# Altium integrated library Altera MAX 7000B.IntLib: 128 symbols (part 5 of 9)
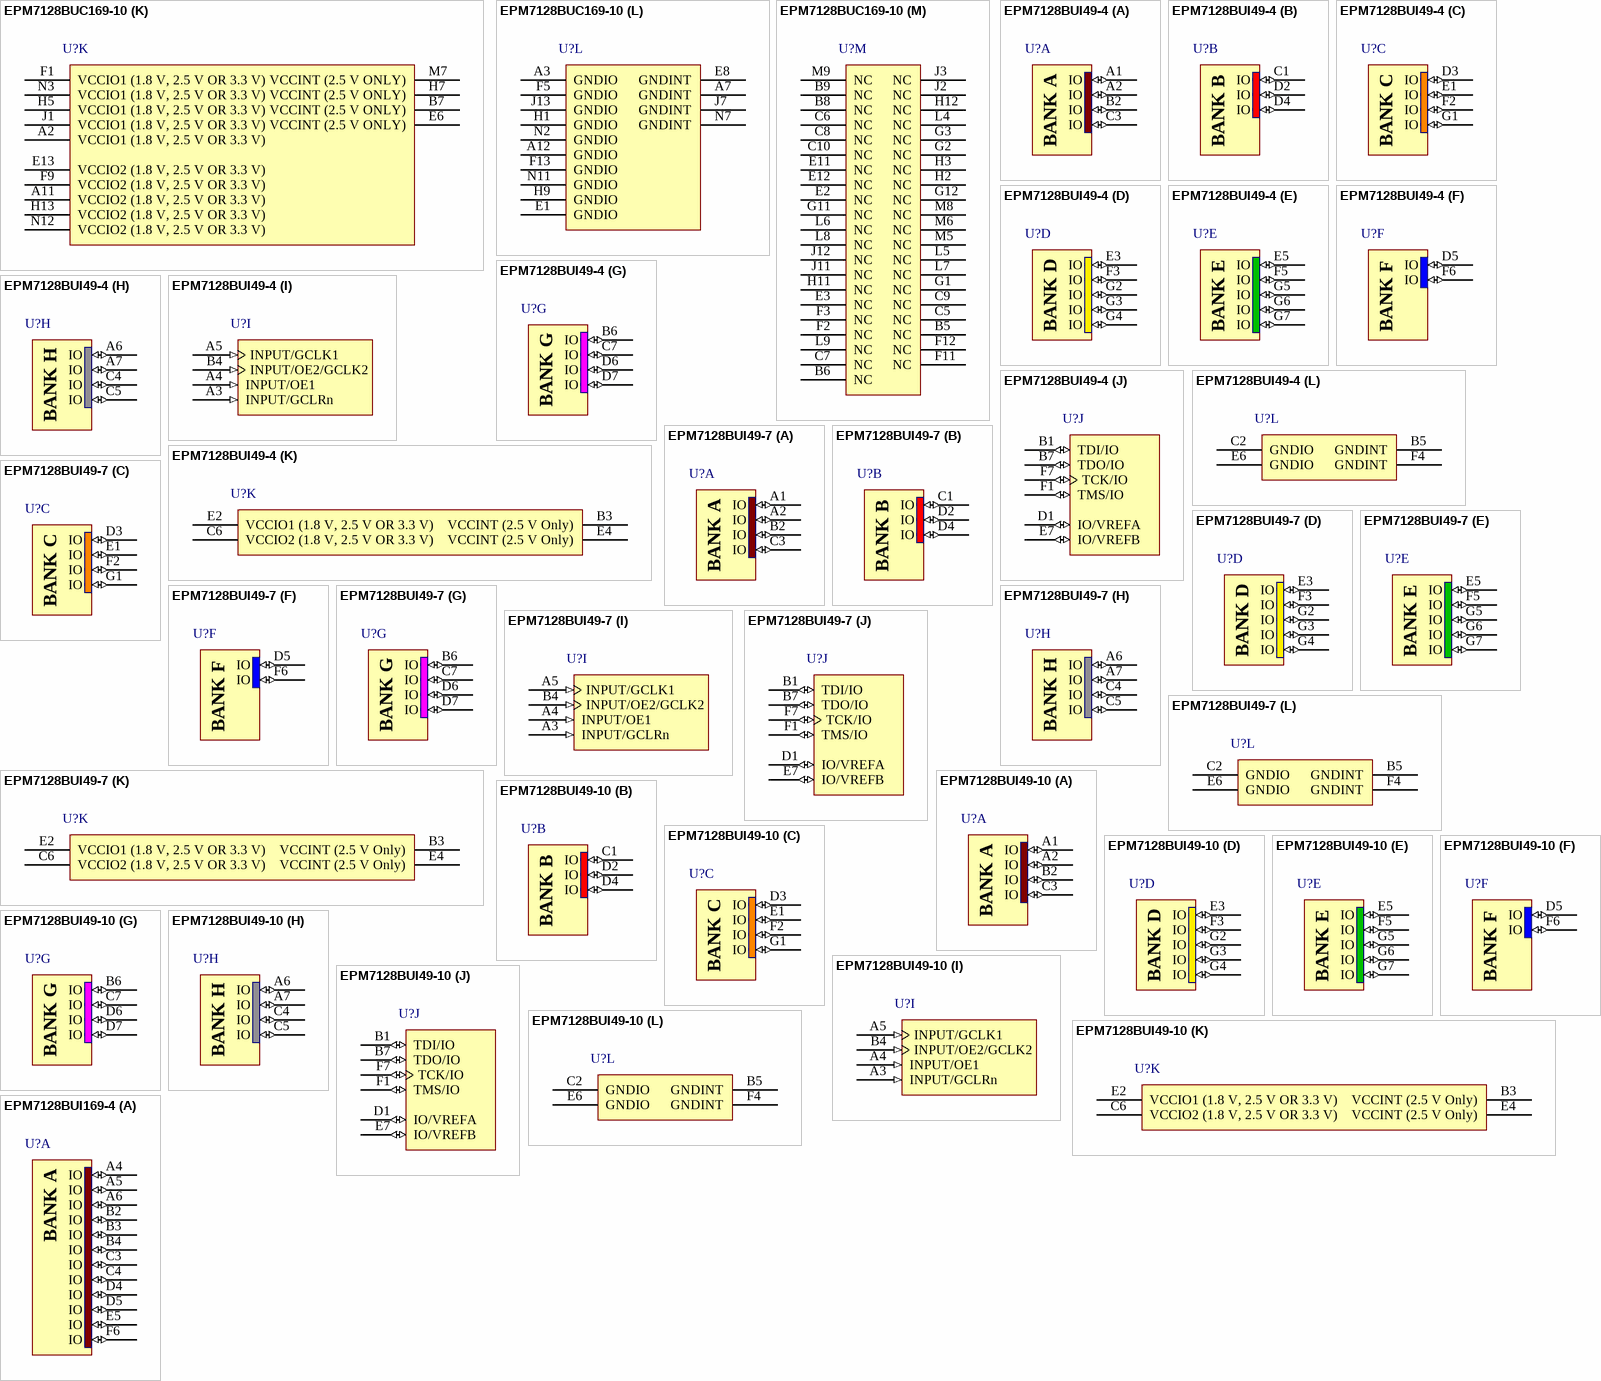
[diagram p50: symbols EPM7128BUC169-10 to EPM7128BUI169-4]

## EPM7128BUC169-10
designator U?
Max 7000B 2.5V CPLD, 128 Macrocells, 169-Pin UFBGA, Speed Grade 10, Commercial Grade; ComponentAvailability: Discontinued 2004, Compatible Substitute EPM7256BUC169-10; Published: 17-Sep-2003; LatestRevisionDate: 13-Apr-2006; LatestRevisionNote: IPC-7351 Footprint Added.; DatasheetVersion: ver3.5, Sep-2005; PackageVersion: ver14.3, Jul-2006; PackageReference: UBGA169; Publisher: Altium Limited; PackageDescription: 169-Ball Ultra FineLine Ball Grid Array (UBGA169); Code_JEDEC: MO-216-BAF-1; ComponentLink1Description: Manufacturer Link; ComponentLink1URL: http://www.altera.com/products/devices/max7k/m7k-index.html; ComponentLink2Description: Datasheet; ComponentLink2URL: http://www.altera.com/literature/ds/m7000b.pdf; ComponentLink3Description: Packaging Specification; ComponentLink3URL: http://www.altera.com/literature/ds/dspkg.pdf; ComponentLink4Description: Discontinuation Notice; ComponentLink4URL: http://www.altera.com/literature/pcn/pdn0203.pdf
footprint UBGA169 (BGA, 169-Leads, Body 11x11mm, Pitch 0.8mm)
3D model EPM7128B-UBGA169 (169-Ball Ultra FineLine Ball Grid Array (UBGA169))
signal-integrity model 7kb (MAX 7000B)
part A pins: A4 IO (io), A5 IO (io), A6 IO (io), B2 IO (io), B3 IO (io), B4 IO (io), C3 IO (io), C4 IO (io), D4 IO (io), D5 IO (io), E5 IO (io), F6 IO (io)
part B pins: A1 IO (io), B1 IO (io), C1 IO (io), C2 IO (io), D1 IO (io), D2 IO (io), D3 IO (io), F4 IO (io), G5 IO (io), G7 IO (io)
part C pins: G6 IO (io), H4 IO (io), J5 IO (io), K1 IO (io), K2 IO (io), K3 IO (io), K4 IO (io), L1 IO (io), L2 IO (io), M1 IO (io), N1 IO (io)
part D pins: H6 IO (io), J6 IO (io), K5 IO (io), K6 IO (io), K7 IO (io), L3 IO (io), M2 IO (io), M3 IO (io), M4 IO (io), N4 IO (io), N5 IO (io), N6 IO (io)
part E pins: H8 IO (io), J8 IO (io), K8 IO (io), K9 IO (io), K10 IO (io), L10 IO (io), L11 IO (io), M10 IO (io), M11 IO (io), N8 IO (io), N9 IO (io), N10 IO (io)
part F pins: G8 IO (io), J9 IO (io), K11 IO (io), K12 IO (io), K13 IO (io), L12 IO (io), L13 IO (io), M12 IO (io), M13 IO (io), N13 IO (io)
part G pins: B13 IO (io), C12 IO (io), C13 IO (io), D11 IO (io), D12 IO (io), D13 IO (io), E9 IO (io), F10 IO (io), G9 IO (io), G10 IO (io), G13 IO (io)
part H pins: A8 IO (io), A9 IO (io), A10 IO (io), A13 IO (io), B10 IO (io), B11 IO (io), B12 IO (io), C11 IO (io), D9 IO (io), D10 IO (io), F7 IO (io), F8 IO (io)
part I pins: D6 INPUT/GCLRn (in), D7 INPUT/OE1 (in), D8 INPUT/GCLK1 (in), E7 INPUT/OE2/GCLK2 (in)
part J pins: E4 TDI/IO (io), E10 TDO/IO (io), G4 IO/VREFA (io), H10 IO/VREFB (io), J4 TMS/IO (io), J10 TCK/IO (io)
part K pins: A2 VCCIO1 (1.8 V, 2.5 V OR 3.3 V) (power), A11 VCCIO2 (1.8 V, 2.5 V OR 3.3 V) (power), B7 VCCINT (2.5 V ONLY) (power), E6 VCCINT (2.5 V ONLY) (power), E13 VCCIO2 (1.8 V, 2.5 V OR 3.3 V) (power), F1 VCCIO1 (1.8 V, 2.5 V OR 3.3 V) (power), F9 VCCIO2 (1.8 V, 2.5 V OR 3.3 V) (power), H5 VCCIO1 (1.8 V, 2.5 V OR 3.3 V) (power), H7 VCCINT (2.5 V ONLY) (power), H13 VCCIO2 (1.8 V, 2.5 V OR 3.3 V) (power), J1 VCCIO1 (1.8 V, 2.5 V OR 3.3 V) (power), M7 VCCINT (2.5 V ONLY) (power), N3 VCCIO1 (1.8 V, 2.5 V OR 3.3 V) (power), N12 VCCIO2 (1.8 V, 2.5 V OR 3.3 V) (power)
part L pins: A3 GNDIO (power), A7 GNDINT (power), A12 GNDIO (power), E1 GNDIO (power), E8 GNDINT (power), F5 GNDIO (power), F13 GNDIO (power), H1 GNDIO (power), H9 GNDIO (power), J7 GNDINT (power), J13 GNDIO (power), N2 GNDIO (power), N7 GNDINT (power), N11 GNDIO (power)
part M pins: B5 NC, B6 NC, B8 NC, B9 NC, C5 NC, C6 NC, C7 NC, C8 NC, C9 NC, C10 NC, E2 NC, E3 NC, E11 NC, E12 NC, F2 NC, F3 NC, F11 NC, F12 NC, G1 NC, G2 NC, G3 NC, G11 NC, G12 NC, H2 NC, H3 NC, H11 NC, H12 NC, J2 NC, J3 NC, J11 NC, J12 NC, L4 NC, L5 NC, L6 NC, L7 NC, L8 NC, L9 NC, M5 NC, M6 NC, M8 NC, M9 NC
part A text: BANK A
part B text: BANK B
part C text: BANK C
part D text: BANK D
part E text: BANK E
part F text: BANK F
part G text: BANK G
part H text: BANK H

## EPM7128BUI49-4
designator U?
Max 7000B 2.5V CPLD, 128 Macrocells, 49-Pin UFBGA, Speed Grade 4, Industrial Grade; ComponentAvailability: Discontinued 2004; Published: 17-Sep-2003; LatestRevisionDate: 13-Apr-2006; LatestRevisionNote: IPC-7351 Footprint Added.; DatasheetVersion: ver3.4, Sep-2003; PackageVersion: ver14.3, Jul-2006; PackageReference: UBGA49; Publisher: Altium Limited; PackageDescription: 49-Ball Ultra FineLine Ball Grid Array (UBGA49); Code_JEDEC: MO-216-BAB-2; ComponentLink1Description: Manufacturer Link; ComponentLink1URL: http://www.altera.com/products/devices/max7k/m7k-index.html; ComponentLink2Description: Datasheet; ComponentLink2URL: http://www.altera.com/literature/ds/m7000b.pdf; ComponentLink3Description: Packaging Specification; ComponentLink3URL: http://www.altera.com/literature/ds/dspkg.pdf
footprint UBGA49 (BGA, 49-Leads, Body 7x7mm, Pitch 0.8mm)
3D model EPM7128B-UBGA49 (49-Ball Ultra FineLine Ball Grid Array (UBGA49))
signal-integrity model 7kb (MAX 7000B)
part A pins: A1 IO (io), A2 IO (io), B2 IO (io), C3 IO (io)
part B pins: C1 IO (io), D2 IO (io), D4 IO (io)
part C pins: D3 IO (io), E1 IO (io), F2 IO (io), G1 IO (io)
part D pins: E3 IO (io), F3 IO (io), G2 IO (io), G3 IO (io), G4 IO (io)
part E pins: E5 IO (io), F5 IO (io), G5 IO (io), G6 IO (io), G7 IO (io)
part F pins: D5 IO (io), F6 IO (io)
part G pins: B6 IO (io), C7 IO (io), D6 IO (io), D7 IO (io)
part H pins: A6 IO (io), A7 IO (io), C4 IO (io), C5 IO (io)
part I pins: A3 INPUT/GCLRn (in), A4 INPUT/OE1 (in), A5 INPUT/GCLK1 (in), B4 INPUT/OE2/GCLK2 (in)
part J pins: B1 TDI/IO (io), B7 TDO/IO (io), D1 IO/VREFA (io), E7 IO/VREFB (io), F1 TMS/IO (io), F7 TCK/IO (io)
part K pins: B3 VCCINT (2.5 V Only) (power), C6 VCCIO2 (1.8 V, 2.5 V OR 3.3 V) (power), E2 VCCIO1 (1.8 V, 2.5 V OR 3.3 V) (power), E4 VCCINT (2.5 V Only) (power)
part L pins: B5 GNDINT (power), C2 GNDIO (power), E6 GNDIO (power), F4 GNDINT (power)
part A text: BANK A
part B text: BANK B
part C text: BANK C
part D text: BANK D
part E text: BANK E
part F text: BANK F
part G text: BANK G
part H text: BANK H

## EPM7128BUI49-7
designator U?
Max 7000B 2.5V CPLD, 128 Macrocells, 49-Pin UFBGA, Speed Grade 7, Industrial Grade; ComponentAvailability: Discontinued 2004; Published: 17-Sep-2003; LatestRevisionDate: 13-Apr-2006; LatestRevisionNote: IPC-7351 Footprint Added.; DatasheetVersion: ver3.4, Sep-2003; PackageVersion: ver14.3, Jul-2006; PackageReference: UBGA49; Publisher: Altium Limited; PackageDescription: 49-Ball Ultra FineLine Ball Grid Array (UBGA49); Code_JEDEC: MO-216-BAB-2; ComponentLink1Description: Manufacturer Link; ComponentLink1URL: http://www.altera.com/products/devices/max7k/m7k-index.html; ComponentLink2Description: Datasheet; ComponentLink2URL: http://www.altera.com/literature/ds/m7000b.pdf; ComponentLink3Description: Packaging Specification; ComponentLink3URL: http://www.altera.com/literature/ds/dspkg.pdf
footprint UBGA49 (BGA, 49-Leads, Body 7x7mm, Pitch 0.8mm)
3D model EPM7128B-UBGA49 (49-Ball Ultra FineLine Ball Grid Array (UBGA49))
signal-integrity model 7kb (MAX 7000B)
part A pins: A1 IO (io), A2 IO (io), B2 IO (io), C3 IO (io)
part B pins: C1 IO (io), D2 IO (io), D4 IO (io)
part C pins: D3 IO (io), E1 IO (io), F2 IO (io), G1 IO (io)
part D pins: E3 IO (io), F3 IO (io), G2 IO (io), G3 IO (io), G4 IO (io)
part E pins: E5 IO (io), F5 IO (io), G5 IO (io), G6 IO (io), G7 IO (io)
part F pins: D5 IO (io), F6 IO (io)
part G pins: B6 IO (io), C7 IO (io), D6 IO (io), D7 IO (io)
part H pins: A6 IO (io), A7 IO (io), C4 IO (io), C5 IO (io)
part I pins: A3 INPUT/GCLRn (in), A4 INPUT/OE1 (in), A5 INPUT/GCLK1 (in), B4 INPUT/OE2/GCLK2 (in)
part J pins: B1 TDI/IO (io), B7 TDO/IO (io), D1 IO/VREFA (io), E7 IO/VREFB (io), F1 TMS/IO (io), F7 TCK/IO (io)
part K pins: B3 VCCINT (2.5 V Only) (power), C6 VCCIO2 (1.8 V, 2.5 V OR 3.3 V) (power), E2 VCCIO1 (1.8 V, 2.5 V OR 3.3 V) (power), E4 VCCINT (2.5 V Only) (power)
part L pins: B5 GNDINT (power), C2 GNDIO (power), E6 GNDIO (power), F4 GNDINT (power)
part A text: BANK A
part B text: BANK B
part C text: BANK C
part D text: BANK D
part E text: BANK E
part F text: BANK F
part G text: BANK G
part H text: BANK H

## EPM7128BUI49-10
designator U?
Max 7000B 2.5V CPLD, 128 Macrocells, 49-Pin UFBGA, Speed Grade 10, Industrial Grade; ComponentAvailability: Discontinued 2004; Published: 17-Sep-2003; LatestRevisionDate: 13-Apr-2006; LatestRevisionNote: IPC-7351 Footprint Added.; DatasheetVersion: ver3.4, Sep-2003; PackageVersion: ver14.3, Jul-2006; PackageReference: UBGA49; Publisher: Altium Limited; PackageDescription: 49-Ball Ultra FineLine Ball Grid Array (UBGA49); Code_JEDEC: MO-216-BAB-2; ComponentLink1Description: Manufacturer Link; ComponentLink1URL: http://www.altera.com/products/devices/max7k/m7k-index.html; ComponentLink2Description: Datasheet; ComponentLink2URL: http://www.altera.com/literature/ds/m7000b.pdf; ComponentLink3Description: Packaging Specification; ComponentLink3URL: http://www.altera.com/literature/ds/dspkg.pdf
footprint UBGA49 (BGA, 49-Leads, Body 7x7mm, Pitch 0.8mm)
3D model EPM7128B-UBGA49 (49-Ball Ultra FineLine Ball Grid Array (UBGA49))
signal-integrity model 7kb (MAX 7000B)
part A pins: A1 IO (io), A2 IO (io), B2 IO (io), C3 IO (io)
part B pins: C1 IO (io), D2 IO (io), D4 IO (io)
part C pins: D3 IO (io), E1 IO (io), F2 IO (io), G1 IO (io)
part D pins: E3 IO (io), F3 IO (io), G2 IO (io), G3 IO (io), G4 IO (io)
part E pins: E5 IO (io), F5 IO (io), G5 IO (io), G6 IO (io), G7 IO (io)
part F pins: D5 IO (io), F6 IO (io)
part G pins: B6 IO (io), C7 IO (io), D6 IO (io), D7 IO (io)
part H pins: A6 IO (io), A7 IO (io), C4 IO (io), C5 IO (io)
part I pins: A3 INPUT/GCLRn (in), A4 INPUT/OE1 (in), A5 INPUT/GCLK1 (in), B4 INPUT/OE2/GCLK2 (in)
part J pins: B1 TDI/IO (io), B7 TDO/IO (io), D1 IO/VREFA (io), E7 IO/VREFB (io), F1 TMS/IO (io), F7 TCK/IO (io)
part K pins: B3 VCCINT (2.5 V Only) (power), C6 VCCIO2 (1.8 V, 2.5 V OR 3.3 V) (power), E2 VCCIO1 (1.8 V, 2.5 V OR 3.3 V) (power), E4 VCCINT (2.5 V Only) (power)
part L pins: B5 GNDINT (power), C2 GNDIO (power), E6 GNDIO (power), F4 GNDINT (power)
part A text: BANK A
part B text: BANK B
part C text: BANK C
part D text: BANK D
part E text: BANK E
part F text: BANK F
part G text: BANK G
part H text: BANK H

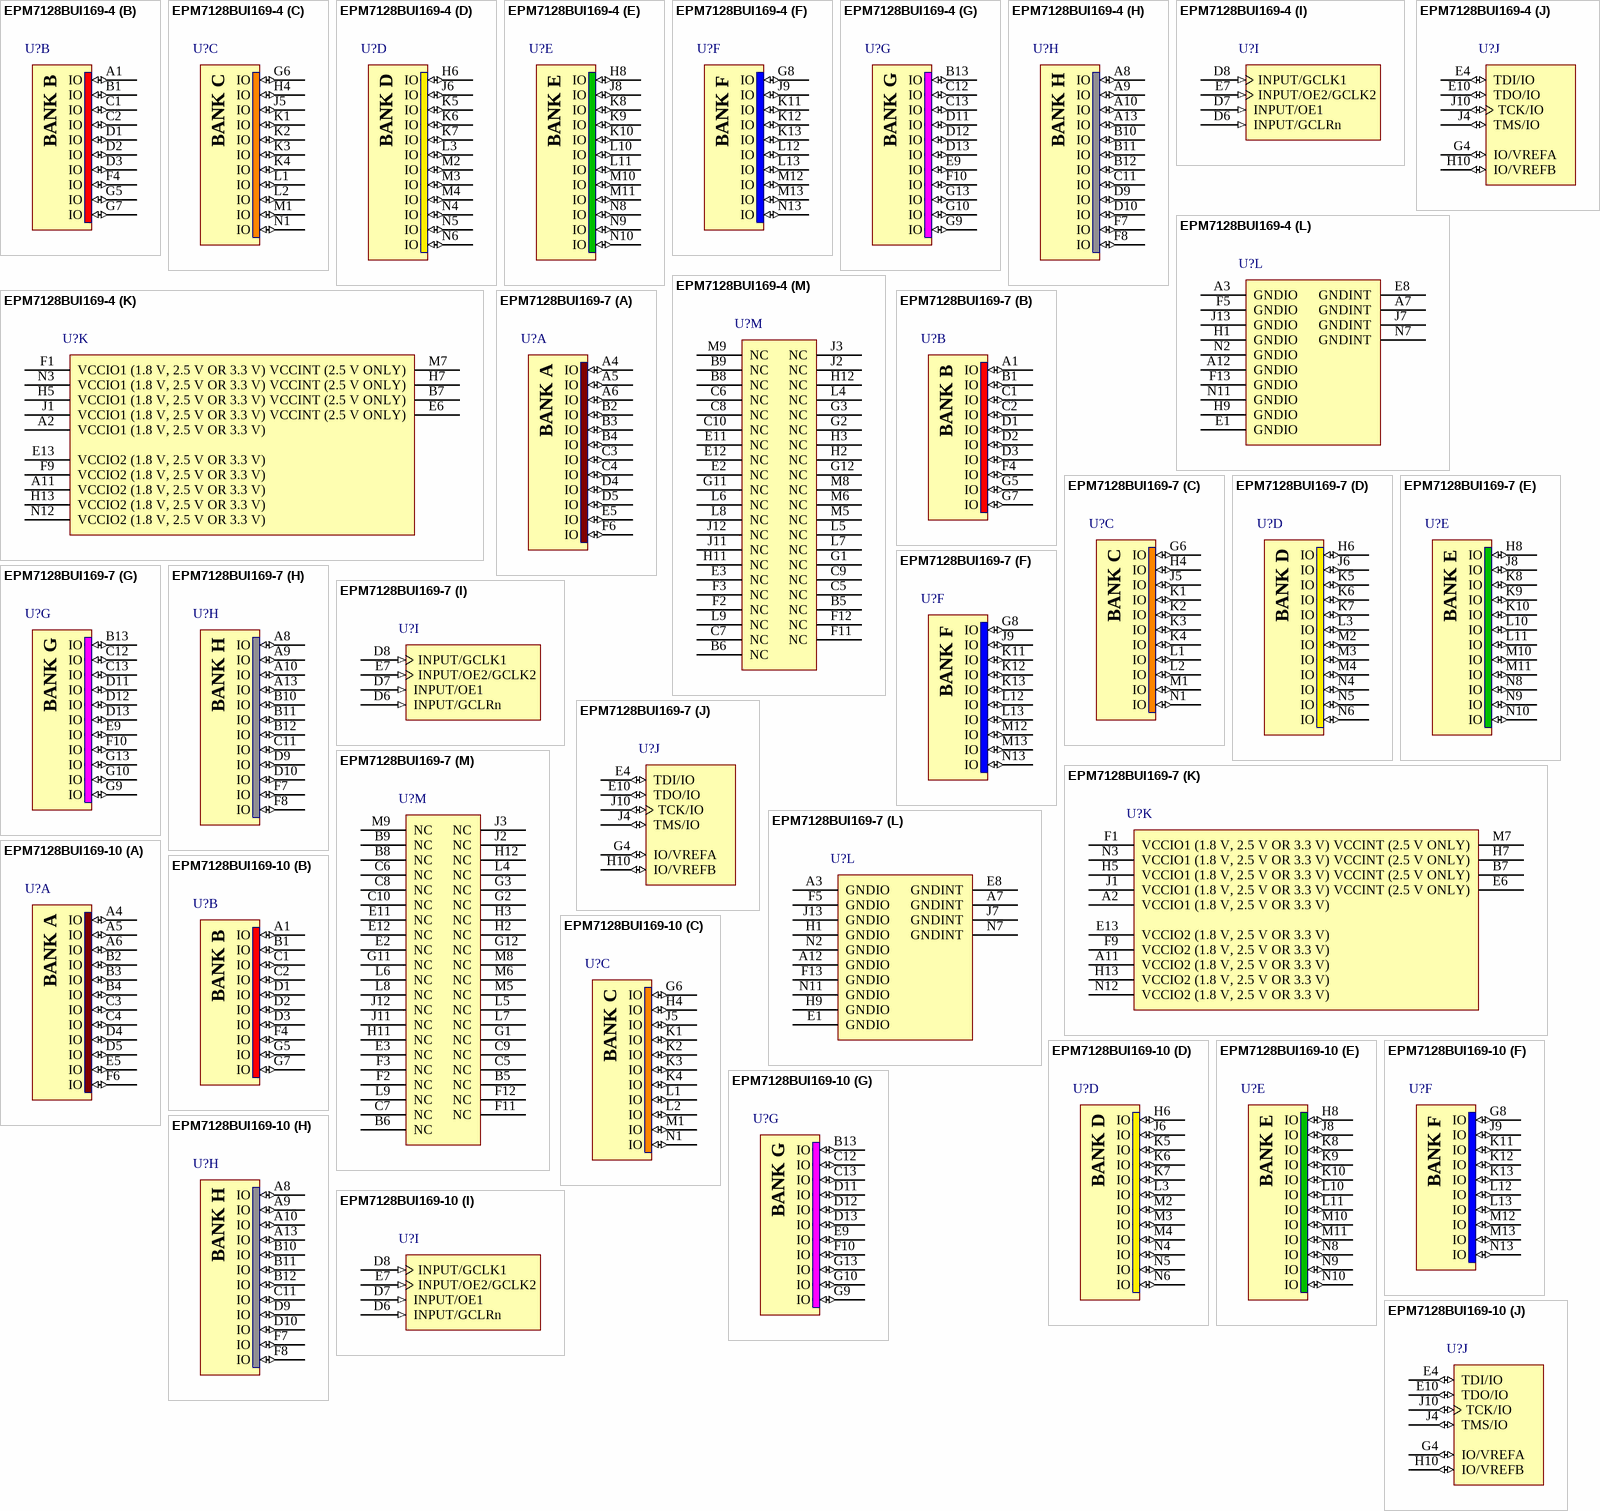
[diagram p21: symbols EPM7128BUI169-4 to EPM7128BUI169-10]

## EPM7128BUI169-4
designator U?
Max 7000B 2.5V CPLD, 128 Macrocells, 169-Pin UFBGA, Speed Grade 4, Industrial Grade; ComponentAvailability: Discontinued 2004; Published: 17-Sep-2003; LatestRevisionDate: 13-Apr-2006; LatestRevisionNote: IPC-7351 Footprint Added.; DatasheetVersion: ver3.4, Sep-2003; PackageVersion: ver14.3, Jul-2006; PackageReference: UBGA169; Publisher: Altium Limited; PackageDescription: 169-Ball Ultra FineLine Ball Grid Array (UBGA169); Code_JEDEC: MO-216-BAF-1; ComponentLink1Description: Manufacturer Link; ComponentLink1URL: http://www.altera.com/products/devices/max7k/m7k-index.html; ComponentLink2Description: Datasheet; ComponentLink2URL: http://www.altera.com/literature/ds/m7000b.pdf; ComponentLink3Description: Packaging Specification; ComponentLink3URL: http://www.altera.com/literature/ds/dspkg.pdf
footprint UBGA169 (BGA, 169-Leads, Body 11x11mm, Pitch 0.8mm)
3D model EPM7128B-UBGA169 (169-Ball Ultra FineLine Ball Grid Array (UBGA169))
signal-integrity model 7kb (MAX 7000B)
part A pins: A4 IO (io), A5 IO (io), A6 IO (io), B2 IO (io), B3 IO (io), B4 IO (io), C3 IO (io), C4 IO (io), D4 IO (io), D5 IO (io), E5 IO (io), F6 IO (io)
part B pins: A1 IO (io), B1 IO (io), C1 IO (io), C2 IO (io), D1 IO (io), D2 IO (io), D3 IO (io), F4 IO (io), G5 IO (io), G7 IO (io)
part C pins: G6 IO (io), H4 IO (io), J5 IO (io), K1 IO (io), K2 IO (io), K3 IO (io), K4 IO (io), L1 IO (io), L2 IO (io), M1 IO (io), N1 IO (io)
part D pins: H6 IO (io), J6 IO (io), K5 IO (io), K6 IO (io), K7 IO (io), L3 IO (io), M2 IO (io), M3 IO (io), M4 IO (io), N4 IO (io), N5 IO (io), N6 IO (io)
part E pins: H8 IO (io), J8 IO (io), K8 IO (io), K9 IO (io), K10 IO (io), L10 IO (io), L11 IO (io), M10 IO (io), M11 IO (io), N8 IO (io), N9 IO (io), N10 IO (io)
part F pins: G8 IO (io), J9 IO (io), K11 IO (io), K12 IO (io), K13 IO (io), L12 IO (io), L13 IO (io), M12 IO (io), M13 IO (io), N13 IO (io)
part G pins: B13 IO (io), C12 IO (io), C13 IO (io), D11 IO (io), D12 IO (io), D13 IO (io), E9 IO (io), F10 IO (io), G9 IO (io), G10 IO (io), G13 IO (io)
part H pins: A8 IO (io), A9 IO (io), A10 IO (io), A13 IO (io), B10 IO (io), B11 IO (io), B12 IO (io), C11 IO (io), D9 IO (io), D10 IO (io), F7 IO (io), F8 IO (io)
part I pins: D6 INPUT/GCLRn (in), D7 INPUT/OE1 (in), D8 INPUT/GCLK1 (in), E7 INPUT/OE2/GCLK2 (in)
part J pins: E4 TDI/IO (io), E10 TDO/IO (io), G4 IO/VREFA (io), H10 IO/VREFB (io), J4 TMS/IO (io), J10 TCK/IO (io)
part K pins: A2 VCCIO1 (1.8 V, 2.5 V OR 3.3 V) (power), A11 VCCIO2 (1.8 V, 2.5 V OR 3.3 V) (power), B7 VCCINT (2.5 V ONLY) (power), E6 VCCINT (2.5 V ONLY) (power), E13 VCCIO2 (1.8 V, 2.5 V OR 3.3 V) (power), F1 VCCIO1 (1.8 V, 2.5 V OR 3.3 V) (power), F9 VCCIO2 (1.8 V, 2.5 V OR 3.3 V) (power), H5 VCCIO1 (1.8 V, 2.5 V OR 3.3 V) (power), H7 VCCINT (2.5 V ONLY) (power), H13 VCCIO2 (1.8 V, 2.5 V OR 3.3 V) (power), J1 VCCIO1 (1.8 V, 2.5 V OR 3.3 V) (power), M7 VCCINT (2.5 V ONLY) (power), N3 VCCIO1 (1.8 V, 2.5 V OR 3.3 V) (power), N12 VCCIO2 (1.8 V, 2.5 V OR 3.3 V) (power)
part L pins: A3 GNDIO (power), A7 GNDINT (power), A12 GNDIO (power), E1 GNDIO (power), E8 GNDINT (power), F5 GNDIO (power), F13 GNDIO (power), H1 GNDIO (power), H9 GNDIO (power), J7 GNDINT (power), J13 GNDIO (power), N2 GNDIO (power), N7 GNDINT (power), N11 GNDIO (power)
part M pins: B5 NC, B6 NC, B8 NC, B9 NC, C5 NC, C6 NC, C7 NC, C8 NC, C9 NC, C10 NC, E2 NC, E3 NC, E11 NC, E12 NC, F2 NC, F3 NC, F11 NC, F12 NC, G1 NC, G2 NC, G3 NC, G11 NC, G12 NC, H2 NC, H3 NC, H11 NC, H12 NC, J2 NC, J3 NC, J11 NC, J12 NC, L4 NC, L5 NC, L6 NC, L7 NC, L8 NC, L9 NC, M5 NC, M6 NC, M8 NC, M9 NC
part A text: BANK A
part B text: BANK B
part C text: BANK C
part D text: BANK D
part E text: BANK E
part F text: BANK F
part G text: BANK G
part H text: BANK H

## EPM7128BUI169-7
designator U?
Max 7000B 2.5V CPLD, 128 Macrocells, 169-Pin UFBGA, Speed Grade 7, Industrial Grade; ComponentAvailability: Discontinued 2004; Published: 17-Sep-2003; LatestRevisionDate: 13-Apr-2006; LatestRevisionNote: IPC-7351 Footprint Added.; DatasheetVersion: ver3.4, Sep-2003; PackageVersion: ver14.3, Jul-2006; PackageReference: UBGA169; Publisher: Altium Limited; PackageDescription: 169-Ball Ultra FineLine Ball Grid Array (UBGA169); Code_JEDEC: MO-216-BAF-1; ComponentLink1Description: Manufacturer Link; ComponentLink1URL: http://www.altera.com/products/devices/max7k/m7k-index.html; ComponentLink2Description: Datasheet; ComponentLink2URL: http://www.altera.com/literature/ds/m7000b.pdf; ComponentLink3Description: Packaging Specification; ComponentLink3URL: http://www.altera.com/literature/ds/dspkg.pdf
footprint UBGA169 (BGA, 169-Leads, Body 11x11mm, Pitch 0.8mm)
3D model EPM7128B-UBGA169 (169-Ball Ultra FineLine Ball Grid Array (UBGA169))
signal-integrity model 7kb (MAX 7000B)
part A pins: A4 IO (io), A5 IO (io), A6 IO (io), B2 IO (io), B3 IO (io), B4 IO (io), C3 IO (io), C4 IO (io), D4 IO (io), D5 IO (io), E5 IO (io), F6 IO (io)
part B pins: A1 IO (io), B1 IO (io), C1 IO (io), C2 IO (io), D1 IO (io), D2 IO (io), D3 IO (io), F4 IO (io), G5 IO (io), G7 IO (io)
part C pins: G6 IO (io), H4 IO (io), J5 IO (io), K1 IO (io), K2 IO (io), K3 IO (io), K4 IO (io), L1 IO (io), L2 IO (io), M1 IO (io), N1 IO (io)
part D pins: H6 IO (io), J6 IO (io), K5 IO (io), K6 IO (io), K7 IO (io), L3 IO (io), M2 IO (io), M3 IO (io), M4 IO (io), N4 IO (io), N5 IO (io), N6 IO (io)
part E pins: H8 IO (io), J8 IO (io), K8 IO (io), K9 IO (io), K10 IO (io), L10 IO (io), L11 IO (io), M10 IO (io), M11 IO (io), N8 IO (io), N9 IO (io), N10 IO (io)
part F pins: G8 IO (io), J9 IO (io), K11 IO (io), K12 IO (io), K13 IO (io), L12 IO (io), L13 IO (io), M12 IO (io), M13 IO (io), N13 IO (io)
part G pins: B13 IO (io), C12 IO (io), C13 IO (io), D11 IO (io), D12 IO (io), D13 IO (io), E9 IO (io), F10 IO (io), G9 IO (io), G10 IO (io), G13 IO (io)
part H pins: A8 IO (io), A9 IO (io), A10 IO (io), A13 IO (io), B10 IO (io), B11 IO (io), B12 IO (io), C11 IO (io), D9 IO (io), D10 IO (io), F7 IO (io), F8 IO (io)
part I pins: D6 INPUT/GCLRn (in), D7 INPUT/OE1 (in), D8 INPUT/GCLK1 (in), E7 INPUT/OE2/GCLK2 (in)
part J pins: E4 TDI/IO (io), E10 TDO/IO (io), G4 IO/VREFA (io), H10 IO/VREFB (io), J4 TMS/IO (io), J10 TCK/IO (io)
part K pins: A2 VCCIO1 (1.8 V, 2.5 V OR 3.3 V) (power), A11 VCCIO2 (1.8 V, 2.5 V OR 3.3 V) (power), B7 VCCINT (2.5 V ONLY) (power), E6 VCCINT (2.5 V ONLY) (power), E13 VCCIO2 (1.8 V, 2.5 V OR 3.3 V) (power), F1 VCCIO1 (1.8 V, 2.5 V OR 3.3 V) (power), F9 VCCIO2 (1.8 V, 2.5 V OR 3.3 V) (power), H5 VCCIO1 (1.8 V, 2.5 V OR 3.3 V) (power), H7 VCCINT (2.5 V ONLY) (power), H13 VCCIO2 (1.8 V, 2.5 V OR 3.3 V) (power), J1 VCCIO1 (1.8 V, 2.5 V OR 3.3 V) (power), M7 VCCINT (2.5 V ONLY) (power), N3 VCCIO1 (1.8 V, 2.5 V OR 3.3 V) (power), N12 VCCIO2 (1.8 V, 2.5 V OR 3.3 V) (power)
part L pins: A3 GNDIO (power), A7 GNDINT (power), A12 GNDIO (power), E1 GNDIO (power), E8 GNDINT (power), F5 GNDIO (power), F13 GNDIO (power), H1 GNDIO (power), H9 GNDIO (power), J7 GNDINT (power), J13 GNDIO (power), N2 GNDIO (power), N7 GNDINT (power), N11 GNDIO (power)
part M pins: B5 NC, B6 NC, B8 NC, B9 NC, C5 NC, C6 NC, C7 NC, C8 NC, C9 NC, C10 NC, E2 NC, E3 NC, E11 NC, E12 NC, F2 NC, F3 NC, F11 NC, F12 NC, G1 NC, G2 NC, G3 NC, G11 NC, G12 NC, H2 NC, H3 NC, H11 NC, H12 NC, J2 NC, J3 NC, J11 NC, J12 NC, L4 NC, L5 NC, L6 NC, L7 NC, L8 NC, L9 NC, M5 NC, M6 NC, M8 NC, M9 NC
part A text: BANK A
part B text: BANK B
part C text: BANK C
part D text: BANK D
part E text: BANK E
part F text: BANK F
part G text: BANK G
part H text: BANK H

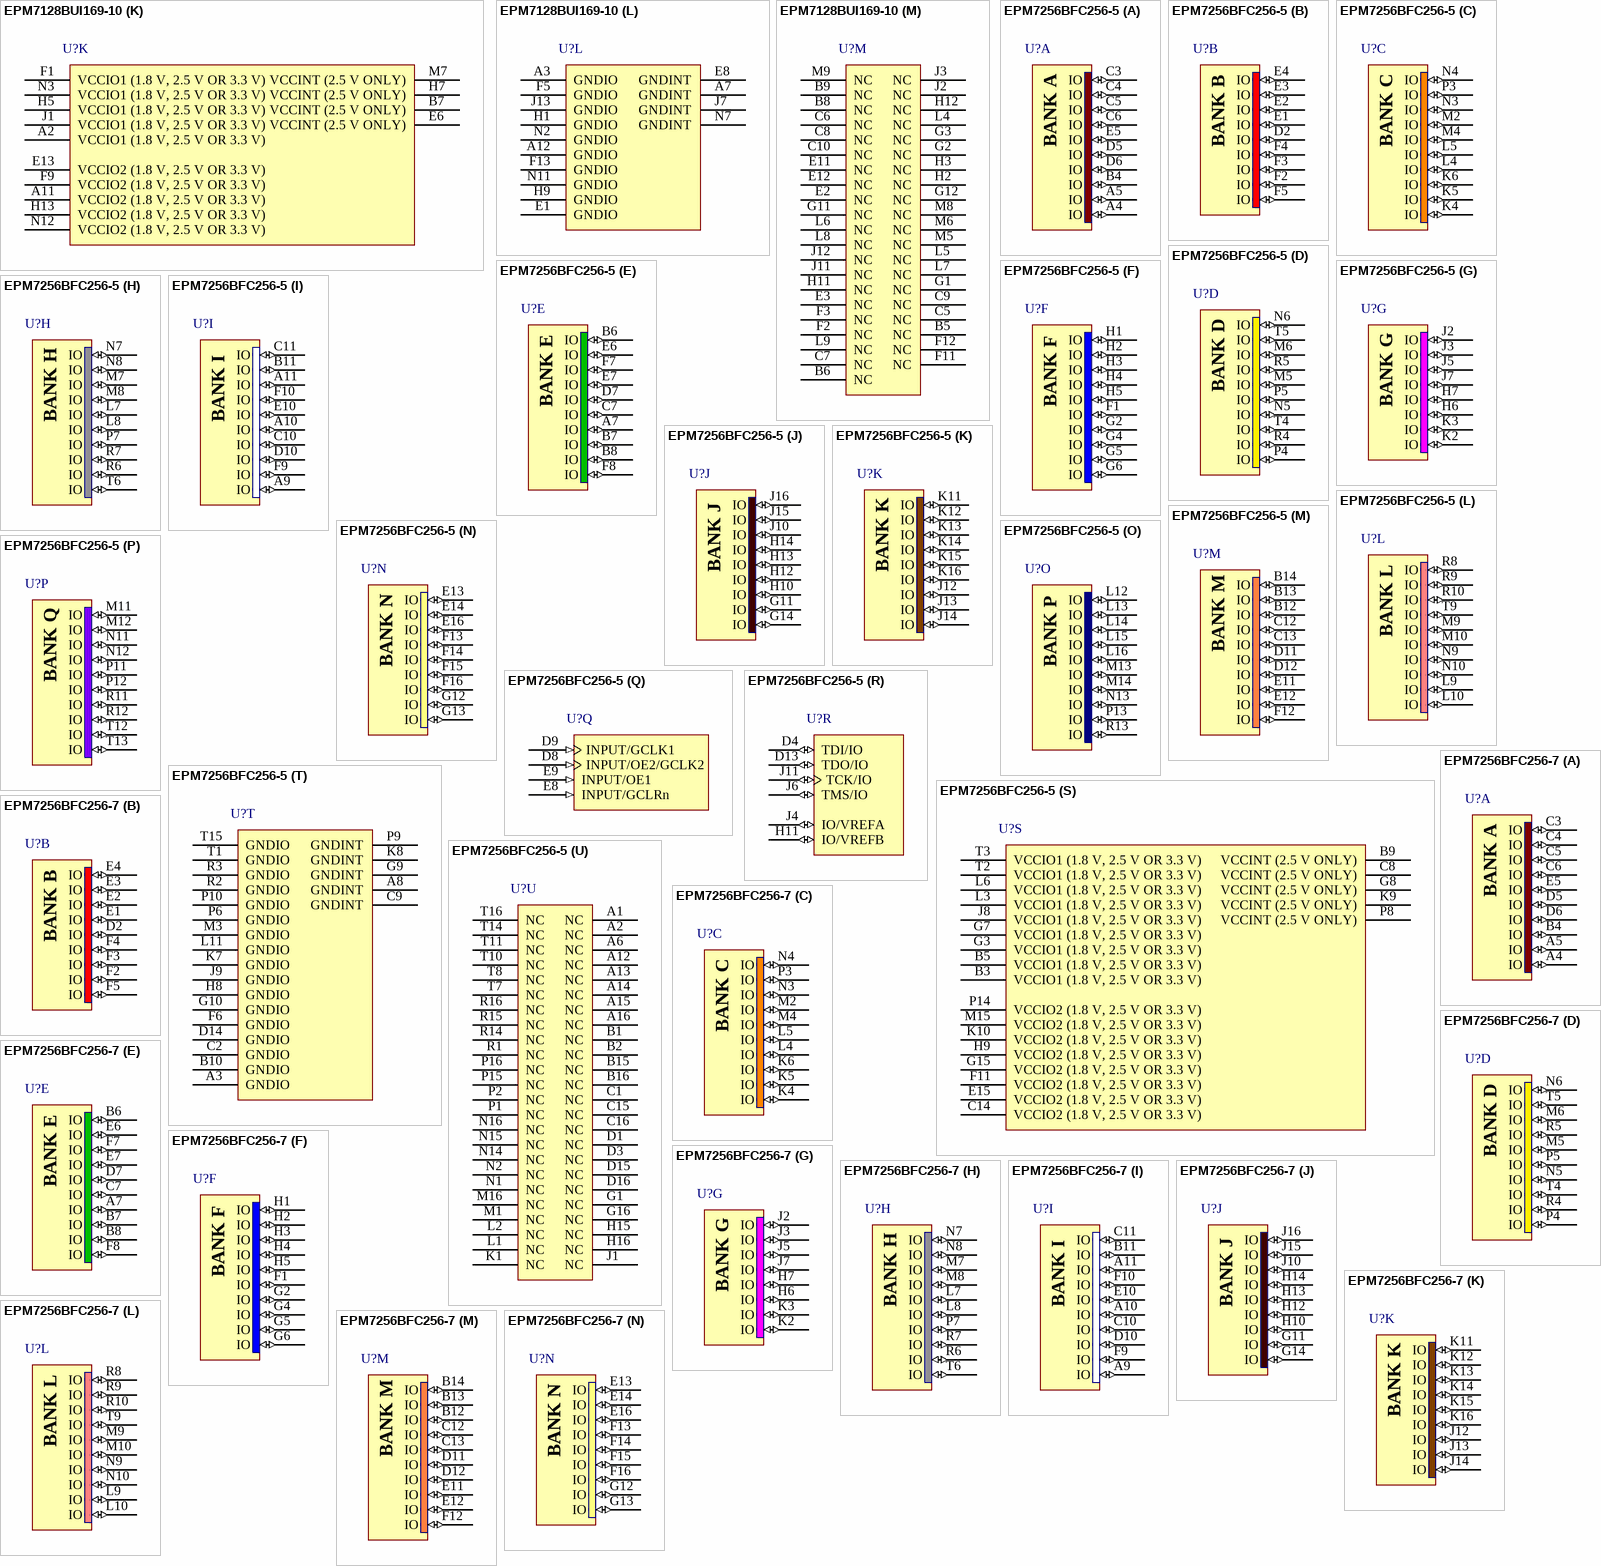
[diagram p22: symbols EPM7128BUI169-10 to EPM7256BFC256-7]

## EPM7128BUI169-10
designator U?
Max 7000B 2.5V CPLD, 128 Macrocells, 169-Pin UFBGA, Speed Grade 10, Industrial Grade; ComponentAvailability: Discontinued 2004; Published: 17-Sep-2003; LatestRevisionDate: 13-Apr-2006; LatestRevisionNote: IPC-7351 Footprint Added.; DatasheetVersion: ver3.4, Sep-2003; PackageVersion: ver14.3, Jul-2006; PackageReference: UBGA169; Publisher: Altium Limited; PackageDescription: 169-Ball Ultra FineLine Ball Grid Array (UBGA169); Code_JEDEC: MO-216-BAF-1; ComponentLink1Description: Manufacturer Link; ComponentLink1URL: http://www.altera.com/products/devices/max7k/m7k-index.html; ComponentLink2Description: Datasheet; ComponentLink2URL: http://www.altera.com/literature/ds/m7000b.pdf; ComponentLink3Description: Packaging Specification; ComponentLink3URL: http://www.altera.com/literature/ds/dspkg.pdf
footprint UBGA169 (BGA, 169-Leads, Body 11x11mm, Pitch 0.8mm)
3D model EPM7128B-UBGA169 (169-Ball Ultra FineLine Ball Grid Array (UBGA169))
signal-integrity model 7kb (MAX 7000B)
part A pins: A4 IO (io), A5 IO (io), A6 IO (io), B2 IO (io), B3 IO (io), B4 IO (io), C3 IO (io), C4 IO (io), D4 IO (io), D5 IO (io), E5 IO (io), F6 IO (io)
part B pins: A1 IO (io), B1 IO (io), C1 IO (io), C2 IO (io), D1 IO (io), D2 IO (io), D3 IO (io), F4 IO (io), G5 IO (io), G7 IO (io)
part C pins: G6 IO (io), H4 IO (io), J5 IO (io), K1 IO (io), K2 IO (io), K3 IO (io), K4 IO (io), L1 IO (io), L2 IO (io), M1 IO (io), N1 IO (io)
part D pins: H6 IO (io), J6 IO (io), K5 IO (io), K6 IO (io), K7 IO (io), L3 IO (io), M2 IO (io), M3 IO (io), M4 IO (io), N4 IO (io), N5 IO (io), N6 IO (io)
part E pins: H8 IO (io), J8 IO (io), K8 IO (io), K9 IO (io), K10 IO (io), L10 IO (io), L11 IO (io), M10 IO (io), M11 IO (io), N8 IO (io), N9 IO (io), N10 IO (io)
part F pins: G8 IO (io), J9 IO (io), K11 IO (io), K12 IO (io), K13 IO (io), L12 IO (io), L13 IO (io), M12 IO (io), M13 IO (io), N13 IO (io)
part G pins: B13 IO (io), C12 IO (io), C13 IO (io), D11 IO (io), D12 IO (io), D13 IO (io), E9 IO (io), F10 IO (io), G9 IO (io), G10 IO (io), G13 IO (io)
part H pins: A8 IO (io), A9 IO (io), A10 IO (io), A13 IO (io), B10 IO (io), B11 IO (io), B12 IO (io), C11 IO (io), D9 IO (io), D10 IO (io), F7 IO (io), F8 IO (io)
part I pins: D6 INPUT/GCLRn (in), D7 INPUT/OE1 (in), D8 INPUT/GCLK1 (in), E7 INPUT/OE2/GCLK2 (in)
part J pins: E4 TDI/IO (io), E10 TDO/IO (io), G4 IO/VREFA (io), H10 IO/VREFB (io), J4 TMS/IO (io), J10 TCK/IO (io)
part K pins: A2 VCCIO1 (1.8 V, 2.5 V OR 3.3 V) (power), A11 VCCIO2 (1.8 V, 2.5 V OR 3.3 V) (power), B7 VCCINT (2.5 V ONLY) (power), E6 VCCINT (2.5 V ONLY) (power), E13 VCCIO2 (1.8 V, 2.5 V OR 3.3 V) (power), F1 VCCIO1 (1.8 V, 2.5 V OR 3.3 V) (power), F9 VCCIO2 (1.8 V, 2.5 V OR 3.3 V) (power), H5 VCCIO1 (1.8 V, 2.5 V OR 3.3 V) (power), H7 VCCINT (2.5 V ONLY) (power), H13 VCCIO2 (1.8 V, 2.5 V OR 3.3 V) (power), J1 VCCIO1 (1.8 V, 2.5 V OR 3.3 V) (power), M7 VCCINT (2.5 V ONLY) (power), N3 VCCIO1 (1.8 V, 2.5 V OR 3.3 V) (power), N12 VCCIO2 (1.8 V, 2.5 V OR 3.3 V) (power)
part L pins: A3 GNDIO (power), A7 GNDINT (power), A12 GNDIO (power), E1 GNDIO (power), E8 GNDINT (power), F5 GNDIO (power), F13 GNDIO (power), H1 GNDIO (power), H9 GNDIO (power), J7 GNDINT (power), J13 GNDIO (power), N2 GNDIO (power), N7 GNDINT (power), N11 GNDIO (power)
part M pins: B5 NC, B6 NC, B8 NC, B9 NC, C5 NC, C6 NC, C7 NC, C8 NC, C9 NC, C10 NC, E2 NC, E3 NC, E11 NC, E12 NC, F2 NC, F3 NC, F11 NC, F12 NC, G1 NC, G2 NC, G3 NC, G11 NC, G12 NC, H2 NC, H3 NC, H11 NC, H12 NC, J2 NC, J3 NC, J11 NC, J12 NC, L4 NC, L5 NC, L6 NC, L7 NC, L8 NC, L9 NC, M5 NC, M6 NC, M8 NC, M9 NC
part A text: BANK A
part B text: BANK B
part C text: BANK C
part D text: BANK D
part E text: BANK E
part F text: BANK F
part G text: BANK G
part H text: BANK H

## EPM7256BFC256-5
designator U?
Max 7000B 2.5V CPLD, 256 Macrocells, 256-Pin FBGA, Speed Grade 5, Commercial Grade; Published: 23-Sep-2002; LatestRevisionDate: 13-Apr-2006; LatestRevisionNote: IPC-7351 Footprint Added.; DatasheetVersion: ver3.5, Sep-2005; PackageVersion: ver14.3, Jul-2006; PackageReference: FBGA256; Publisher: Altium Limited; PackageDescription: 256-Ball FineLine Ball Grid Array (FBGA256) - Option 1; Code_JEDEC: MS-034-AAF-1; Code_IPC: BGA100P16X16-256; ComponentLink1Description: Manufacturer Link; ComponentLink1URL: http://www.altera.com/products/devices/max7k/m7k-index.html; ComponentLink2Description: Datasheet; ComponentLink2URL: http://www.altera.com/literature/ds/m7000b.pdf; ComponentLink3Description: Packaging Specification; ComponentLink3URL: http://www.altera.com/literature/ds/dspkg.pdf
footprint FBGA256 (BGA, 256-Leads, Body 17x17mm, Pitch 1mm)
3D model EPM7256B-FBGA256 (256-Ball FineLine Ball Grid Array (FBGA256) - Option 1)
signal-integrity model 7kb (MAX 7000B)
part A pins: A4 IO (io), A5 IO (io), B4 IO (io), C3 IO (io), C4 IO (io), C5 IO (io), C6 IO (io), D5 IO (io), D6 IO (io), E5 IO (io)
part B pins: D2 IO (io), E1 IO (io), E2 IO (io), E3 IO (io), E4 IO (io), F2 IO (io), F3 IO (io), F4 IO (io), F5 IO (io)
part C pins: K4 IO (io), K5 IO (io), K6 IO (io), L4 IO (io), L5 IO (io), M2 IO (io), M4 IO (io), N3 IO (io), N4 IO (io), P3 IO (io)
part D pins: M5 IO (io), M6 IO (io), N5 IO (io), N6 IO (io), P4 IO (io), P5 IO (io), R4 IO (io), R5 IO (io), T4 IO (io), T5 IO (io)
part E pins: A7 IO (io), B6 IO (io), B7 IO (io), B8 IO (io), C7 IO (io), D7 IO (io), E6 IO (io), E7 IO (io), F7 IO (io), F8 IO (io)
part F pins: F1 IO (io), G2 IO (io), G4 IO (io), G5 IO (io), G6 IO (io), H1 IO (io), H2 IO (io), H3 IO (io), H4 IO (io), H5 IO (io)
part G pins: H6 IO (io), H7 IO (io), J2 IO (io), J3 IO (io), J5 IO (io), J7 IO (io), K2 IO (io), K3 IO (io)
part H pins: L7 IO (io), L8 IO (io), M7 IO (io), M8 IO (io), N7 IO (io), N8 IO (io), P7 IO (io), R6 IO (io), R7 IO (io), T6 IO (io)
part I pins: A9 IO (io), A10 IO (io), A11 IO (io), B11 IO (io), C10 IO (io), C11 IO (io), D10 IO (io), E10 IO (io), F9 IO (io), F10 IO (io)
part J pins: G11 IO (io), G14 IO (io), H10 IO (io), H12 IO (io), H13 IO (io), H14 IO (io), J10 IO (io), J15 IO (io), J16 IO (io)
part K pins: J12 IO (io), J13 IO (io), J14 IO (io), K11 IO (io), K12 IO (io), K13 IO (io), K14 IO (io), K15 IO (io), K16 IO (io)
part L pins: L9 IO (io), L10 IO (io), M9 IO (io), M10 IO (io), N9 IO (io), N10 IO (io), R8 IO (io), R9 IO (io), R10 IO (io), T9 IO (io)
part M pins: B12 IO (io), B13 IO (io), B14 IO (io), C12 IO (io), C13 IO (io), D11 IO (io), D12 IO (io), E11 IO (io), E12 IO (io), F12 IO (io)
part N pins: E13 IO (io), E14 IO (io), E16 IO (io), F13 IO (io), F14 IO (io), F15 IO (io), F16 IO (io), G12 IO (io), G13 IO (io)
part O pins: L12 IO (io), L13 IO (io), L14 IO (io), L15 IO (io), L16 IO (io), M13 IO (io), M14 IO (io), N13 IO (io), P13 IO (io), R13 IO (io)
part P pins: M11 IO (io), M12 IO (io), N11 IO (io), N12 IO (io), P11 IO (io), P12 IO (io), R11 IO (io), R12 IO (io), T12 IO (io), T13 IO (io)
part Q pins: D8 INPUT/OE2/GCLK2 (in), D9 INPUT/GCLK1 (in), E8 INPUT/GCLRn (in), E9 INPUT/OE1 (in)
part R pins: D4 TDI/IO (io), D13 TDO/IO (io), H11 IO/VREFB (io), J4 IO/VREFA (io), J6 TMS/IO (io), J11 TCK/IO (io)
part S pins: B3 VCCIO1 (1.8 V, 2.5 V OR 3.3 V) (power), B5 VCCIO1 (1.8 V, 2.5 V OR 3.3 V) (power), B9 VCCINT (2.5 V ONLY) (power), C8 VCCINT (2.5 V ONLY) (power), C14 VCCIO2 (1.8 V, 2.5 V OR 3.3 V) (power), E15 VCCIO2 (1.8 V, 2.5 V OR 3.3 V) (power), F11 VCCIO2 (1.8 V, 2.5 V OR 3.3 V) (power), G3 VCCIO1 (1.8 V, 2.5 V OR 3.3 V) (power), G7 VCCIO1 (1.8 V, 2.5 V OR 3.3 V) (power), G8 VCCINT (2.5 V ONLY) (power), G15 VCCIO2 (1.8 V, 2.5 V OR 3.3 V) (power), H9 VCCIO2 (1.8 V, 2.5 V OR 3.3 V) (power), J8 VCCIO1 (1.8 V, 2.5 V OR 3.3 V) (power), K9 VCCINT (2.5 V ONLY) (power), K10 VCCIO2 (1.8 V, 2.5 V OR 3.3 V) (power), L3 VCCIO1 (1.8 V, 2.5 V OR 3.3 V) (power), L6 VCCIO1 (1.8 V, 2.5 V OR 3.3 V) (power), M15 VCCIO2 (1.8 V, 2.5 V OR 3.3 V) (power), P8 VCCINT (2.5 V ONLY) (power), P14 VCCIO2 (1.8 V, 2.5 V OR 3.3 V) (power), T2 VCCIO1 (1.8 V, 2.5 V OR 3.3 V) (power), T3 VCCIO1 (1.8 V, 2.5 V OR 3.3 V) (power)
part T pins: A3 GNDIO (power), A8 GNDINT (power), B10 GNDIO (power), C2 GNDIO (power), C9 GNDINT (power), D14 GNDIO (power), F6 GNDIO (power), G9 GNDINT (power), G10 GNDIO (power), H8 GNDIO (power), J9 GNDIO (power), K7 GNDIO (power), K8 GNDINT (power), L11 GNDIO (power), M3 GNDIO (power), P6 GNDIO (power), P9 GNDINT (power), P10 GNDIO (power), R2 GNDIO (power), R3 GNDIO (power), T1 GNDIO (power), T15 GNDIO (power)
part U pins: A1 NC, A2 NC, A6 NC, A12 NC, A13 NC, A14 NC, A15 NC, A16 NC, B1 NC, B2 NC, B15 NC, B16 NC, C1 NC, C15 NC, C16 NC, D1 NC, D3 NC, D15 NC, D16 NC, G1 NC, G16 NC, H15 NC, H16 NC, J1 NC, K1 NC, L1 NC, L2 NC, M1 NC, M16 NC, N1 NC, N2 NC, N14 NC, N15 NC, N16 NC, P1 NC, P2 NC, P15 NC, P16 NC, R1 NC, R14 NC, R15 NC, R16 NC, T7 NC, T8 NC, T10 NC, T11 NC, T14 NC, T16 NC
part A text: BANK A
part B text: BANK B
part C text: BANK C
part D text: BANK D
part E text: BANK E
part F text: BANK F
part G text: BANK G
part H text: BANK H
part I text: BANK I
part J text: BANK J
part K text: BANK K
part L text: BANK L
part M text: BANK M
part N text: BANK N
part O text: BANK P
part P text: BANK Q

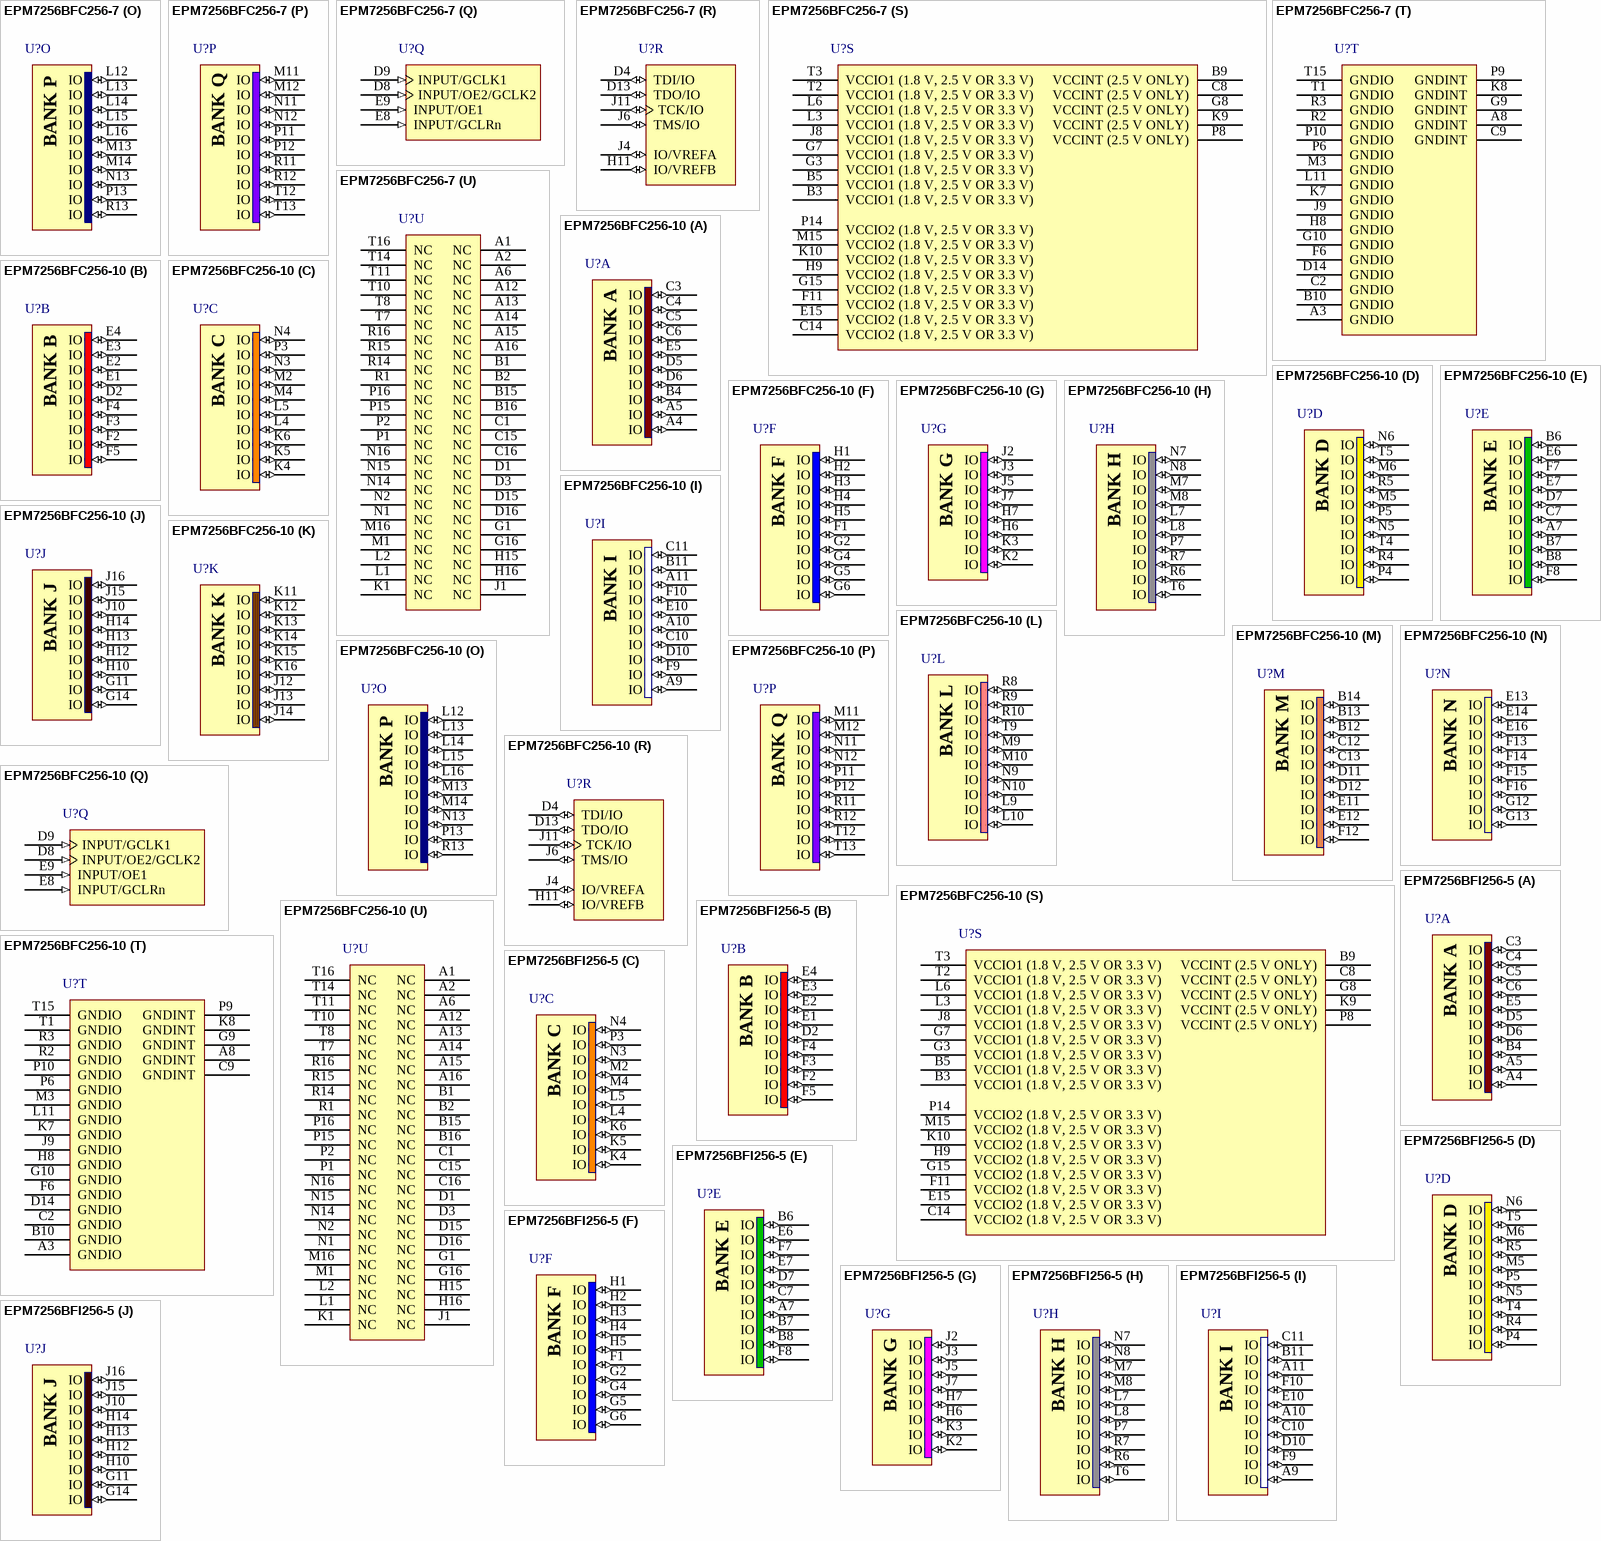
[diagram p23: symbols EPM7256BFC256-7 to EPM7256BFI256-5]

## EPM7256BFC256-7
designator U?
Max 7000B 2.5V CPLD, 256 Macrocells, 256-Pin FBGA, Speed Grade 7, Commercial Grade; Published: 17-Sep-2003; LatestRevisionDate: 13-Apr-2006; LatestRevisionNote: IPC-7351 Footprint Added.; DatasheetVersion: ver3.5, Sep-2005; PackageVersion: ver14.3, Jul-2006; PackageReference: FBGA256; Publisher: Altium Limited; PackageDescription: 256-Ball FineLine Ball Grid Array (FBGA256) - Option 1; Code_JEDEC: MS-034-AAF-1; Code_IPC: BGA100P16X16-256; ComponentLink1Description: Manufacturer Link; ComponentLink1URL: http://www.altera.com/products/devices/max7k/m7k-index.html; ComponentLink2Description: Datasheet; ComponentLink2URL: http://www.altera.com/literature/ds/m7000b.pdf; ComponentLink3Description: Packaging Specification; ComponentLink3URL: http://www.altera.com/literature/ds/dspkg.pdf
footprint FBGA256 (BGA, 256-Leads, Body 17x17mm, Pitch 1mm)
3D model EPM7256B-FBGA256 (256-Ball FineLine Ball Grid Array (FBGA256) - Option 1)
signal-integrity model 7kb (MAX 7000B)
part A pins: A4 IO (io), A5 IO (io), B4 IO (io), C3 IO (io), C4 IO (io), C5 IO (io), C6 IO (io), D5 IO (io), D6 IO (io), E5 IO (io)
part B pins: D2 IO (io), E1 IO (io), E2 IO (io), E3 IO (io), E4 IO (io), F2 IO (io), F3 IO (io), F4 IO (io), F5 IO (io)
part C pins: K4 IO (io), K5 IO (io), K6 IO (io), L4 IO (io), L5 IO (io), M2 IO (io), M4 IO (io), N3 IO (io), N4 IO (io), P3 IO (io)
part D pins: M5 IO (io), M6 IO (io), N5 IO (io), N6 IO (io), P4 IO (io), P5 IO (io), R4 IO (io), R5 IO (io), T4 IO (io), T5 IO (io)
part E pins: A7 IO (io), B6 IO (io), B7 IO (io), B8 IO (io), C7 IO (io), D7 IO (io), E6 IO (io), E7 IO (io), F7 IO (io), F8 IO (io)
part F pins: F1 IO (io), G2 IO (io), G4 IO (io), G5 IO (io), G6 IO (io), H1 IO (io), H2 IO (io), H3 IO (io), H4 IO (io), H5 IO (io)
part G pins: H6 IO (io), H7 IO (io), J2 IO (io), J3 IO (io), J5 IO (io), J7 IO (io), K2 IO (io), K3 IO (io)
part H pins: L7 IO (io), L8 IO (io), M7 IO (io), M8 IO (io), N7 IO (io), N8 IO (io), P7 IO (io), R6 IO (io), R7 IO (io), T6 IO (io)
part I pins: A9 IO (io), A10 IO (io), A11 IO (io), B11 IO (io), C10 IO (io), C11 IO (io), D10 IO (io), E10 IO (io), F9 IO (io), F10 IO (io)
part J pins: G11 IO (io), G14 IO (io), H10 IO (io), H12 IO (io), H13 IO (io), H14 IO (io), J10 IO (io), J15 IO (io), J16 IO (io)
part K pins: J12 IO (io), J13 IO (io), J14 IO (io), K11 IO (io), K12 IO (io), K13 IO (io), K14 IO (io), K15 IO (io), K16 IO (io)
part L pins: L9 IO (io), L10 IO (io), M9 IO (io), M10 IO (io), N9 IO (io), N10 IO (io), R8 IO (io), R9 IO (io), R10 IO (io), T9 IO (io)
part M pins: B12 IO (io), B13 IO (io), B14 IO (io), C12 IO (io), C13 IO (io), D11 IO (io), D12 IO (io), E11 IO (io), E12 IO (io), F12 IO (io)
part N pins: E13 IO (io), E14 IO (io), E16 IO (io), F13 IO (io), F14 IO (io), F15 IO (io), F16 IO (io), G12 IO (io), G13 IO (io)
part O pins: L12 IO (io), L13 IO (io), L14 IO (io), L15 IO (io), L16 IO (io), M13 IO (io), M14 IO (io), N13 IO (io), P13 IO (io), R13 IO (io)
part P pins: M11 IO (io), M12 IO (io), N11 IO (io), N12 IO (io), P11 IO (io), P12 IO (io), R11 IO (io), R12 IO (io), T12 IO (io), T13 IO (io)
part Q pins: D8 INPUT/OE2/GCLK2 (in), D9 INPUT/GCLK1 (in), E8 INPUT/GCLRn (in), E9 INPUT/OE1 (in)
part R pins: D4 TDI/IO (io), D13 TDO/IO (io), H11 IO/VREFB (io), J4 IO/VREFA (io), J6 TMS/IO (io), J11 TCK/IO (io)
part S pins: B3 VCCIO1 (1.8 V, 2.5 V OR 3.3 V) (power), B5 VCCIO1 (1.8 V, 2.5 V OR 3.3 V) (power), B9 VCCINT (2.5 V ONLY) (power), C8 VCCINT (2.5 V ONLY) (power), C14 VCCIO2 (1.8 V, 2.5 V OR 3.3 V) (power), E15 VCCIO2 (1.8 V, 2.5 V OR 3.3 V) (power), F11 VCCIO2 (1.8 V, 2.5 V OR 3.3 V) (power), G3 VCCIO1 (1.8 V, 2.5 V OR 3.3 V) (power), G7 VCCIO1 (1.8 V, 2.5 V OR 3.3 V) (power), G8 VCCINT (2.5 V ONLY) (power), G15 VCCIO2 (1.8 V, 2.5 V OR 3.3 V) (power), H9 VCCIO2 (1.8 V, 2.5 V OR 3.3 V) (power), J8 VCCIO1 (1.8 V, 2.5 V OR 3.3 V) (power), K9 VCCINT (2.5 V ONLY) (power), K10 VCCIO2 (1.8 V, 2.5 V OR 3.3 V) (power), L3 VCCIO1 (1.8 V, 2.5 V OR 3.3 V) (power), L6 VCCIO1 (1.8 V, 2.5 V OR 3.3 V) (power), M15 VCCIO2 (1.8 V, 2.5 V OR 3.3 V) (power), P8 VCCINT (2.5 V ONLY) (power), P14 VCCIO2 (1.8 V, 2.5 V OR 3.3 V) (power), T2 VCCIO1 (1.8 V, 2.5 V OR 3.3 V) (power), T3 VCCIO1 (1.8 V, 2.5 V OR 3.3 V) (power)
part T pins: A3 GNDIO (power), A8 GNDINT (power), B10 GNDIO (power), C2 GNDIO (power), C9 GNDINT (power), D14 GNDIO (power), F6 GNDIO (power), G9 GNDINT (power), G10 GNDIO (power), H8 GNDIO (power), J9 GNDIO (power), K7 GNDIO (power), K8 GNDINT (power), L11 GNDIO (power), M3 GNDIO (power), P6 GNDIO (power), P9 GNDINT (power), P10 GNDIO (power), R2 GNDIO (power), R3 GNDIO (power), T1 GNDIO (power), T15 GNDIO (power)
part U pins: A1 NC, A2 NC, A6 NC, A12 NC, A13 NC, A14 NC, A15 NC, A16 NC, B1 NC, B2 NC, B15 NC, B16 NC, C1 NC, C15 NC, C16 NC, D1 NC, D3 NC, D15 NC, D16 NC, G1 NC, G16 NC, H15 NC, H16 NC, J1 NC, K1 NC, L1 NC, L2 NC, M1 NC, M16 NC, N1 NC, N2 NC, N14 NC, N15 NC, N16 NC, P1 NC, P2 NC, P15 NC, P16 NC, R1 NC, R14 NC, R15 NC, R16 NC, T7 NC, T8 NC, T10 NC, T11 NC, T14 NC, T16 NC
part A text: BANK A
part B text: BANK B
part C text: BANK C
part D text: BANK D
part E text: BANK E
part F text: BANK F
part G text: BANK G
part H text: BANK H
part I text: BANK I
part J text: BANK J
part K text: BANK K
part L text: BANK L
part M text: BANK M
part N text: BANK N
part O text: BANK P
part P text: BANK Q

## EPM7256BFC256-10
designator U?
Max 7000B 2.5V CPLD, 256 Macrocells, 256-Pin FBGA, Speed Grade 10, Commercial Grade; Published: 17-Sep-2003; LatestRevisionDate: 13-Apr-2006; LatestRevisionNote: IPC-7351 Footprint Added.; DatasheetVersion: ver3.5, Sep-2005; PackageVersion: ver14.3, Jul-2006; PackageReference: FBGA256; Publisher: Altium Limited; PackageDescription: 256-Ball FineLine Ball Grid Array (FBGA256) - Option 1; Code_JEDEC: MS-034-AAF-1; Code_IPC: BGA100P16X16-256; ComponentLink1Description: Manufacturer Link; ComponentLink1URL: http://www.altera.com/products/devices/max7k/m7k-index.html; ComponentLink2Description: Datasheet; ComponentLink2URL: http://www.altera.com/literature/ds/m7000b.pdf; ComponentLink3Description: Packaging Specification; ComponentLink3URL: http://www.altera.com/literature/ds/dspkg.pdf
footprint FBGA256 (BGA, 256-Leads, Body 17x17mm, Pitch 1mm)
3D model EPM7256B-FBGA256 (256-Ball FineLine Ball Grid Array (FBGA256) - Option 1)
signal-integrity model 7kb (MAX 7000B)
part A pins: A4 IO (io), A5 IO (io), B4 IO (io), C3 IO (io), C4 IO (io), C5 IO (io), C6 IO (io), D5 IO (io), D6 IO (io), E5 IO (io)
part B pins: D2 IO (io), E1 IO (io), E2 IO (io), E3 IO (io), E4 IO (io), F2 IO (io), F3 IO (io), F4 IO (io), F5 IO (io)
part C pins: K4 IO (io), K5 IO (io), K6 IO (io), L4 IO (io), L5 IO (io), M2 IO (io), M4 IO (io), N3 IO (io), N4 IO (io), P3 IO (io)
part D pins: M5 IO (io), M6 IO (io), N5 IO (io), N6 IO (io), P4 IO (io), P5 IO (io), R4 IO (io), R5 IO (io), T4 IO (io), T5 IO (io)
part E pins: A7 IO (io), B6 IO (io), B7 IO (io), B8 IO (io), C7 IO (io), D7 IO (io), E6 IO (io), E7 IO (io), F7 IO (io), F8 IO (io)
part F pins: F1 IO (io), G2 IO (io), G4 IO (io), G5 IO (io), G6 IO (io), H1 IO (io), H2 IO (io), H3 IO (io), H4 IO (io), H5 IO (io)
part G pins: H6 IO (io), H7 IO (io), J2 IO (io), J3 IO (io), J5 IO (io), J7 IO (io), K2 IO (io), K3 IO (io)
part H pins: L7 IO (io), L8 IO (io), M7 IO (io), M8 IO (io), N7 IO (io), N8 IO (io), P7 IO (io), R6 IO (io), R7 IO (io), T6 IO (io)
part I pins: A9 IO (io), A10 IO (io), A11 IO (io), B11 IO (io), C10 IO (io), C11 IO (io), D10 IO (io), E10 IO (io), F9 IO (io), F10 IO (io)
part J pins: G11 IO (io), G14 IO (io), H10 IO (io), H12 IO (io), H13 IO (io), H14 IO (io), J10 IO (io), J15 IO (io), J16 IO (io)
part K pins: J12 IO (io), J13 IO (io), J14 IO (io), K11 IO (io), K12 IO (io), K13 IO (io), K14 IO (io), K15 IO (io), K16 IO (io)
part L pins: L9 IO (io), L10 IO (io), M9 IO (io), M10 IO (io), N9 IO (io), N10 IO (io), R8 IO (io), R9 IO (io), R10 IO (io), T9 IO (io)
part M pins: B12 IO (io), B13 IO (io), B14 IO (io), C12 IO (io), C13 IO (io), D11 IO (io), D12 IO (io), E11 IO (io), E12 IO (io), F12 IO (io)
part N pins: E13 IO (io), E14 IO (io), E16 IO (io), F13 IO (io), F14 IO (io), F15 IO (io), F16 IO (io), G12 IO (io), G13 IO (io)
part O pins: L12 IO (io), L13 IO (io), L14 IO (io), L15 IO (io), L16 IO (io), M13 IO (io), M14 IO (io), N13 IO (io), P13 IO (io), R13 IO (io)
part P pins: M11 IO (io), M12 IO (io), N11 IO (io), N12 IO (io), P11 IO (io), P12 IO (io), R11 IO (io), R12 IO (io), T12 IO (io), T13 IO (io)
part Q pins: D8 INPUT/OE2/GCLK2 (in), D9 INPUT/GCLK1 (in), E8 INPUT/GCLRn (in), E9 INPUT/OE1 (in)
part R pins: D4 TDI/IO (io), D13 TDO/IO (io), H11 IO/VREFB (io), J4 IO/VREFA (io), J6 TMS/IO (io), J11 TCK/IO (io)
part S pins: B3 VCCIO1 (1.8 V, 2.5 V OR 3.3 V) (power), B5 VCCIO1 (1.8 V, 2.5 V OR 3.3 V) (power), B9 VCCINT (2.5 V ONLY) (power), C8 VCCINT (2.5 V ONLY) (power), C14 VCCIO2 (1.8 V, 2.5 V OR 3.3 V) (power), E15 VCCIO2 (1.8 V, 2.5 V OR 3.3 V) (power), F11 VCCIO2 (1.8 V, 2.5 V OR 3.3 V) (power), G3 VCCIO1 (1.8 V, 2.5 V OR 3.3 V) (power), G7 VCCIO1 (1.8 V, 2.5 V OR 3.3 V) (power), G8 VCCINT (2.5 V ONLY) (power), G15 VCCIO2 (1.8 V, 2.5 V OR 3.3 V) (power), H9 VCCIO2 (1.8 V, 2.5 V OR 3.3 V) (power), J8 VCCIO1 (1.8 V, 2.5 V OR 3.3 V) (power), K9 VCCINT (2.5 V ONLY) (power), K10 VCCIO2 (1.8 V, 2.5 V OR 3.3 V) (power), L3 VCCIO1 (1.8 V, 2.5 V OR 3.3 V) (power), L6 VCCIO1 (1.8 V, 2.5 V OR 3.3 V) (power), M15 VCCIO2 (1.8 V, 2.5 V OR 3.3 V) (power), P8 VCCINT (2.5 V ONLY) (power), P14 VCCIO2 (1.8 V, 2.5 V OR 3.3 V) (power), T2 VCCIO1 (1.8 V, 2.5 V OR 3.3 V) (power), T3 VCCIO1 (1.8 V, 2.5 V OR 3.3 V) (power)
part T pins: A3 GNDIO (power), A8 GNDINT (power), B10 GNDIO (power), C2 GNDIO (power), C9 GNDINT (power), D14 GNDIO (power), F6 GNDIO (power), G9 GNDINT (power), G10 GNDIO (power), H8 GNDIO (power), J9 GNDIO (power), K7 GNDIO (power), K8 GNDINT (power), L11 GNDIO (power), M3 GNDIO (power), P6 GNDIO (power), P9 GNDINT (power), P10 GNDIO (power), R2 GNDIO (power), R3 GNDIO (power), T1 GNDIO (power), T15 GNDIO (power)
part U pins: A1 NC, A2 NC, A6 NC, A12 NC, A13 NC, A14 NC, A15 NC, A16 NC, B1 NC, B2 NC, B15 NC, B16 NC, C1 NC, C15 NC, C16 NC, D1 NC, D3 NC, D15 NC, D16 NC, G1 NC, G16 NC, H15 NC, H16 NC, J1 NC, K1 NC, L1 NC, L2 NC, M1 NC, M16 NC, N1 NC, N2 NC, N14 NC, N15 NC, N16 NC, P1 NC, P2 NC, P15 NC, P16 NC, R1 NC, R14 NC, R15 NC, R16 NC, T7 NC, T8 NC, T10 NC, T11 NC, T14 NC, T16 NC
part A text: BANK A
part B text: BANK B
part C text: BANK C
part D text: BANK D
part E text: BANK E
part F text: BANK F
part G text: BANK G
part H text: BANK H
part I text: BANK I
part J text: BANK J
part K text: BANK K
part L text: BANK L
part M text: BANK M
part N text: BANK N
part O text: BANK P
part P text: BANK Q

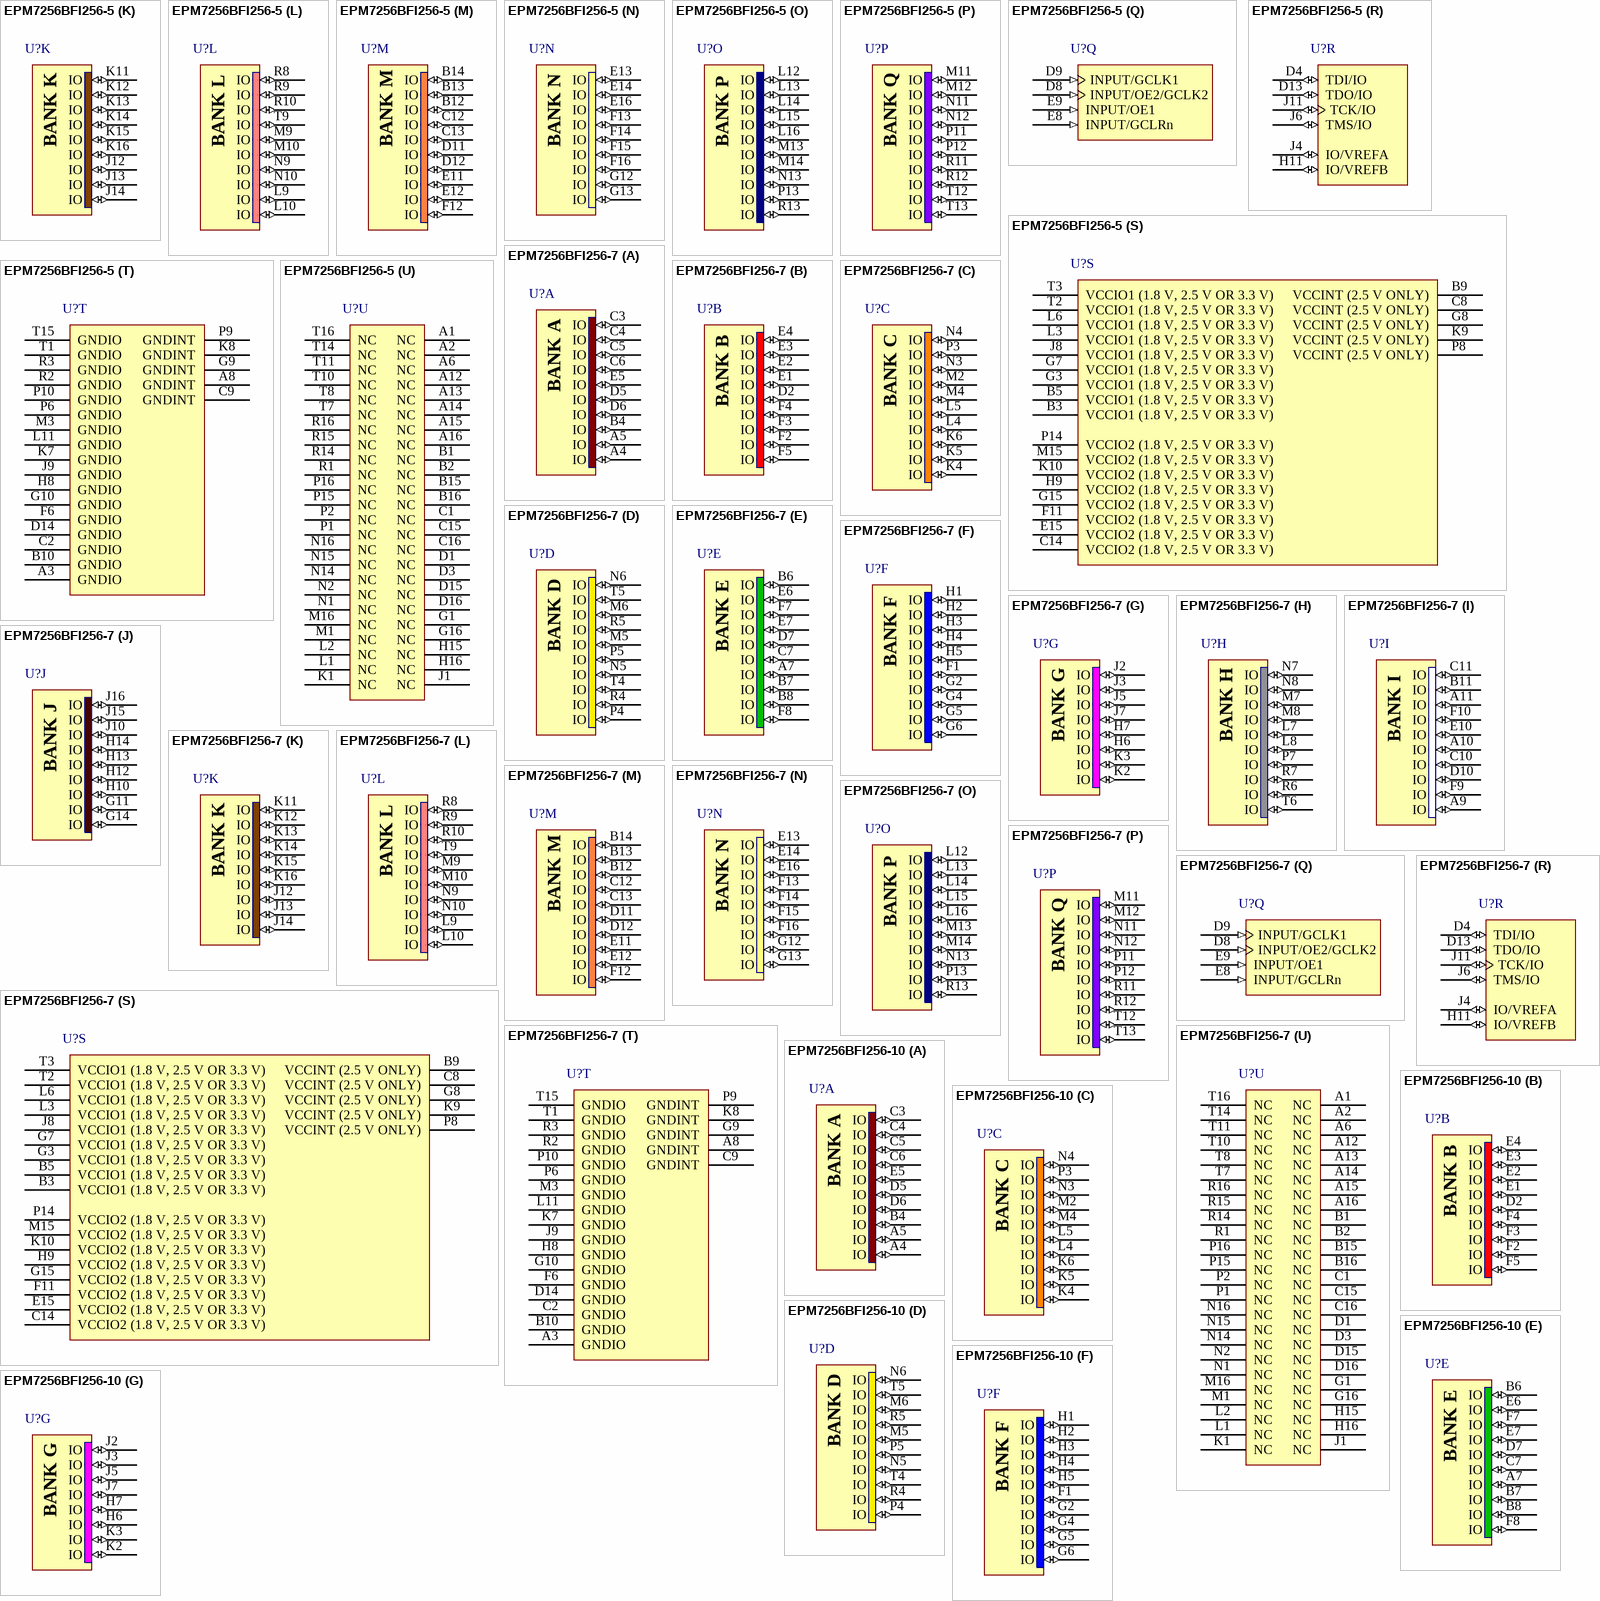
[diagram p24: symbols EPM7256BFI256-5 to EPM7256BFI256-10]

## EPM7256BFI256-5
designator U?
Max 7000B 2.5V CPLD, 256 Macrocells, 256-Pin FBGA, Speed Grade 5, Industrial Grade; Published: 17-Sep-2003; LatestRevisionDate: 13-Apr-2006; LatestRevisionNote: IPC-7351 Footprint Added.; DatasheetVersion: ver3.4, Sep-2003; PackageVersion: ver14.3, Jul-2006; PackageReference: FBGA256; Publisher: Altium Limited; PackageDescription: 256-Ball FineLine Ball Grid Array (FBGA256) - Option 1; Code_JEDEC: MS-034-AAF-1; Code_IPC: BGA100P16X16-256; ComponentLink1Description: Manufacturer Link; ComponentLink1URL: http://www.altera.com/products/devices/max7k/m7k-index.html; ComponentLink2Description: Datasheet; ComponentLink2URL: http://www.altera.com/literature/ds/m7000b.pdf; ComponentLink3Description: Packaging Specification; ComponentLink3URL: http://www.altera.com/literature/ds/dspkg.pdf
footprint FBGA256 (BGA, 256-Leads, Body 17x17mm, Pitch 1mm)
3D model EPM7256B-FBGA256 (256-Ball FineLine Ball Grid Array (FBGA256) - Option 1)
signal-integrity model 7kb (MAX 7000B)
part A pins: A4 IO (io), A5 IO (io), B4 IO (io), C3 IO (io), C4 IO (io), C5 IO (io), C6 IO (io), D5 IO (io), D6 IO (io), E5 IO (io)
part B pins: D2 IO (io), E1 IO (io), E2 IO (io), E3 IO (io), E4 IO (io), F2 IO (io), F3 IO (io), F4 IO (io), F5 IO (io)
part C pins: K4 IO (io), K5 IO (io), K6 IO (io), L4 IO (io), L5 IO (io), M2 IO (io), M4 IO (io), N3 IO (io), N4 IO (io), P3 IO (io)
part D pins: M5 IO (io), M6 IO (io), N5 IO (io), N6 IO (io), P4 IO (io), P5 IO (io), R4 IO (io), R5 IO (io), T4 IO (io), T5 IO (io)
part E pins: A7 IO (io), B6 IO (io), B7 IO (io), B8 IO (io), C7 IO (io), D7 IO (io), E6 IO (io), E7 IO (io), F7 IO (io), F8 IO (io)
part F pins: F1 IO (io), G2 IO (io), G4 IO (io), G5 IO (io), G6 IO (io), H1 IO (io), H2 IO (io), H3 IO (io), H4 IO (io), H5 IO (io)
part G pins: H6 IO (io), H7 IO (io), J2 IO (io), J3 IO (io), J5 IO (io), J7 IO (io), K2 IO (io), K3 IO (io)
part H pins: L7 IO (io), L8 IO (io), M7 IO (io), M8 IO (io), N7 IO (io), N8 IO (io), P7 IO (io), R6 IO (io), R7 IO (io), T6 IO (io)
part I pins: A9 IO (io), A10 IO (io), A11 IO (io), B11 IO (io), C10 IO (io), C11 IO (io), D10 IO (io), E10 IO (io), F9 IO (io), F10 IO (io)
part J pins: G11 IO (io), G14 IO (io), H10 IO (io), H12 IO (io), H13 IO (io), H14 IO (io), J10 IO (io), J15 IO (io), J16 IO (io)
part K pins: J12 IO (io), J13 IO (io), J14 IO (io), K11 IO (io), K12 IO (io), K13 IO (io), K14 IO (io), K15 IO (io), K16 IO (io)
part L pins: L9 IO (io), L10 IO (io), M9 IO (io), M10 IO (io), N9 IO (io), N10 IO (io), R8 IO (io), R9 IO (io), R10 IO (io), T9 IO (io)
part M pins: B12 IO (io), B13 IO (io), B14 IO (io), C12 IO (io), C13 IO (io), D11 IO (io), D12 IO (io), E11 IO (io), E12 IO (io), F12 IO (io)
part N pins: E13 IO (io), E14 IO (io), E16 IO (io), F13 IO (io), F14 IO (io), F15 IO (io), F16 IO (io), G12 IO (io), G13 IO (io)
part O pins: L12 IO (io), L13 IO (io), L14 IO (io), L15 IO (io), L16 IO (io), M13 IO (io), M14 IO (io), N13 IO (io), P13 IO (io), R13 IO (io)
part P pins: M11 IO (io), M12 IO (io), N11 IO (io), N12 IO (io), P11 IO (io), P12 IO (io), R11 IO (io), R12 IO (io), T12 IO (io), T13 IO (io)
part Q pins: D8 INPUT/OE2/GCLK2 (in), D9 INPUT/GCLK1 (in), E8 INPUT/GCLRn (in), E9 INPUT/OE1 (in)
part R pins: D4 TDI/IO (io), D13 TDO/IO (io), H11 IO/VREFB (io), J4 IO/VREFA (io), J6 TMS/IO (io), J11 TCK/IO (io)
part S pins: B3 VCCIO1 (1.8 V, 2.5 V OR 3.3 V) (power), B5 VCCIO1 (1.8 V, 2.5 V OR 3.3 V) (power), B9 VCCINT (2.5 V ONLY) (power), C8 VCCINT (2.5 V ONLY) (power), C14 VCCIO2 (1.8 V, 2.5 V OR 3.3 V) (power), E15 VCCIO2 (1.8 V, 2.5 V OR 3.3 V) (power), F11 VCCIO2 (1.8 V, 2.5 V OR 3.3 V) (power), G3 VCCIO1 (1.8 V, 2.5 V OR 3.3 V) (power), G7 VCCIO1 (1.8 V, 2.5 V OR 3.3 V) (power), G8 VCCINT (2.5 V ONLY) (power), G15 VCCIO2 (1.8 V, 2.5 V OR 3.3 V) (power), H9 VCCIO2 (1.8 V, 2.5 V OR 3.3 V) (power), J8 VCCIO1 (1.8 V, 2.5 V OR 3.3 V) (power), K9 VCCINT (2.5 V ONLY) (power), K10 VCCIO2 (1.8 V, 2.5 V OR 3.3 V) (power), L3 VCCIO1 (1.8 V, 2.5 V OR 3.3 V) (power), L6 VCCIO1 (1.8 V, 2.5 V OR 3.3 V) (power), M15 VCCIO2 (1.8 V, 2.5 V OR 3.3 V) (power), P8 VCCINT (2.5 V ONLY) (power), P14 VCCIO2 (1.8 V, 2.5 V OR 3.3 V) (power), T2 VCCIO1 (1.8 V, 2.5 V OR 3.3 V) (power), T3 VCCIO1 (1.8 V, 2.5 V OR 3.3 V) (power)
part T pins: A3 GNDIO (power), A8 GNDINT (power), B10 GNDIO (power), C2 GNDIO (power), C9 GNDINT (power), D14 GNDIO (power), F6 GNDIO (power), G9 GNDINT (power), G10 GNDIO (power), H8 GNDIO (power), J9 GNDIO (power), K7 GNDIO (power), K8 GNDINT (power), L11 GNDIO (power), M3 GNDIO (power), P6 GNDIO (power), P9 GNDINT (power), P10 GNDIO (power), R2 GNDIO (power), R3 GNDIO (power), T1 GNDIO (power), T15 GNDIO (power)
part U pins: A1 NC, A2 NC, A6 NC, A12 NC, A13 NC, A14 NC, A15 NC, A16 NC, B1 NC, B2 NC, B15 NC, B16 NC, C1 NC, C15 NC, C16 NC, D1 NC, D3 NC, D15 NC, D16 NC, G1 NC, G16 NC, H15 NC, H16 NC, J1 NC, K1 NC, L1 NC, L2 NC, M1 NC, M16 NC, N1 NC, N2 NC, N14 NC, N15 NC, N16 NC, P1 NC, P2 NC, P15 NC, P16 NC, R1 NC, R14 NC, R15 NC, R16 NC, T7 NC, T8 NC, T10 NC, T11 NC, T14 NC, T16 NC
part A text: BANK A
part B text: BANK B
part C text: BANK C
part D text: BANK D
part E text: BANK E
part F text: BANK F
part G text: BANK G
part H text: BANK H
part I text: BANK I
part J text: BANK J
part K text: BANK K
part L text: BANK L
part M text: BANK M
part N text: BANK N
part O text: BANK P
part P text: BANK Q

## EPM7256BFI256-7
designator U?
Max 7000B 2.5V CPLD, 256 Macrocells, 256-Pin FBGA, Speed Grade 7, Industrial Grade; Published: 17-Sep-2003; LatestRevisionDate: 13-Apr-2006; LatestRevisionNote: IPC-7351 Footprint Added.; DatasheetVersion: ver3.4, Sep-2003; PackageVersion: ver14.3, Jul-2006; PackageReference: FBGA256; Publisher: Altium Limited; PackageDescription: 256-Ball FineLine Ball Grid Array (FBGA256) - Option 1; Code_JEDEC: MS-034-AAF-1; Code_IPC: BGA100P16X16-256; ComponentLink1Description: Manufacturer Link; ComponentLink1URL: http://www.altera.com/products/devices/max7k/m7k-index.html; ComponentLink2Description: Datasheet; ComponentLink2URL: http://www.altera.com/literature/ds/m7000b.pdf; ComponentLink3Description: Packaging Specification; ComponentLink3URL: http://www.altera.com/literature/ds/dspkg.pdf
footprint FBGA256 (BGA, 256-Leads, Body 17x17mm, Pitch 1mm)
3D model EPM7256B-FBGA256 (256-Ball FineLine Ball Grid Array (FBGA256) - Option 1)
signal-integrity model 7kb (MAX 7000B)
part A pins: A4 IO (io), A5 IO (io), B4 IO (io), C3 IO (io), C4 IO (io), C5 IO (io), C6 IO (io), D5 IO (io), D6 IO (io), E5 IO (io)
part B pins: D2 IO (io), E1 IO (io), E2 IO (io), E3 IO (io), E4 IO (io), F2 IO (io), F3 IO (io), F4 IO (io), F5 IO (io)
part C pins: K4 IO (io), K5 IO (io), K6 IO (io), L4 IO (io), L5 IO (io), M2 IO (io), M4 IO (io), N3 IO (io), N4 IO (io), P3 IO (io)
part D pins: M5 IO (io), M6 IO (io), N5 IO (io), N6 IO (io), P4 IO (io), P5 IO (io), R4 IO (io), R5 IO (io), T4 IO (io), T5 IO (io)
part E pins: A7 IO (io), B6 IO (io), B7 IO (io), B8 IO (io), C7 IO (io), D7 IO (io), E6 IO (io), E7 IO (io), F7 IO (io), F8 IO (io)
part F pins: F1 IO (io), G2 IO (io), G4 IO (io), G5 IO (io), G6 IO (io), H1 IO (io), H2 IO (io), H3 IO (io), H4 IO (io), H5 IO (io)
part G pins: H6 IO (io), H7 IO (io), J2 IO (io), J3 IO (io), J5 IO (io), J7 IO (io), K2 IO (io), K3 IO (io)
part H pins: L7 IO (io), L8 IO (io), M7 IO (io), M8 IO (io), N7 IO (io), N8 IO (io), P7 IO (io), R6 IO (io), R7 IO (io), T6 IO (io)
part I pins: A9 IO (io), A10 IO (io), A11 IO (io), B11 IO (io), C10 IO (io), C11 IO (io), D10 IO (io), E10 IO (io), F9 IO (io), F10 IO (io)
part J pins: G11 IO (io), G14 IO (io), H10 IO (io), H12 IO (io), H13 IO (io), H14 IO (io), J10 IO (io), J15 IO (io), J16 IO (io)
part K pins: J12 IO (io), J13 IO (io), J14 IO (io), K11 IO (io), K12 IO (io), K13 IO (io), K14 IO (io), K15 IO (io), K16 IO (io)
part L pins: L9 IO (io), L10 IO (io), M9 IO (io), M10 IO (io), N9 IO (io), N10 IO (io), R8 IO (io), R9 IO (io), R10 IO (io), T9 IO (io)
part M pins: B12 IO (io), B13 IO (io), B14 IO (io), C12 IO (io), C13 IO (io), D11 IO (io), D12 IO (io), E11 IO (io), E12 IO (io), F12 IO (io)
part N pins: E13 IO (io), E14 IO (io), E16 IO (io), F13 IO (io), F14 IO (io), F15 IO (io), F16 IO (io), G12 IO (io), G13 IO (io)
part O pins: L12 IO (io), L13 IO (io), L14 IO (io), L15 IO (io), L16 IO (io), M13 IO (io), M14 IO (io), N13 IO (io), P13 IO (io), R13 IO (io)
part P pins: M11 IO (io), M12 IO (io), N11 IO (io), N12 IO (io), P11 IO (io), P12 IO (io), R11 IO (io), R12 IO (io), T12 IO (io), T13 IO (io)
part Q pins: D8 INPUT/OE2/GCLK2 (in), D9 INPUT/GCLK1 (in), E8 INPUT/GCLRn (in), E9 INPUT/OE1 (in)
part R pins: D4 TDI/IO (io), D13 TDO/IO (io), H11 IO/VREFB (io), J4 IO/VREFA (io), J6 TMS/IO (io), J11 TCK/IO (io)
part S pins: B3 VCCIO1 (1.8 V, 2.5 V OR 3.3 V) (power), B5 VCCIO1 (1.8 V, 2.5 V OR 3.3 V) (power), B9 VCCINT (2.5 V ONLY) (power), C8 VCCINT (2.5 V ONLY) (power), C14 VCCIO2 (1.8 V, 2.5 V OR 3.3 V) (power), E15 VCCIO2 (1.8 V, 2.5 V OR 3.3 V) (power), F11 VCCIO2 (1.8 V, 2.5 V OR 3.3 V) (power), G3 VCCIO1 (1.8 V, 2.5 V OR 3.3 V) (power), G7 VCCIO1 (1.8 V, 2.5 V OR 3.3 V) (power), G8 VCCINT (2.5 V ONLY) (power), G15 VCCIO2 (1.8 V, 2.5 V OR 3.3 V) (power), H9 VCCIO2 (1.8 V, 2.5 V OR 3.3 V) (power), J8 VCCIO1 (1.8 V, 2.5 V OR 3.3 V) (power), K9 VCCINT (2.5 V ONLY) (power), K10 VCCIO2 (1.8 V, 2.5 V OR 3.3 V) (power), L3 VCCIO1 (1.8 V, 2.5 V OR 3.3 V) (power), L6 VCCIO1 (1.8 V, 2.5 V OR 3.3 V) (power), M15 VCCIO2 (1.8 V, 2.5 V OR 3.3 V) (power), P8 VCCINT (2.5 V ONLY) (power), P14 VCCIO2 (1.8 V, 2.5 V OR 3.3 V) (power), T2 VCCIO1 (1.8 V, 2.5 V OR 3.3 V) (power), T3 VCCIO1 (1.8 V, 2.5 V OR 3.3 V) (power)
part T pins: A3 GNDIO (power), A8 GNDINT (power), B10 GNDIO (power), C2 GNDIO (power), C9 GNDINT (power), D14 GNDIO (power), F6 GNDIO (power), G9 GNDINT (power), G10 GNDIO (power), H8 GNDIO (power), J9 GNDIO (power), K7 GNDIO (power), K8 GNDINT (power), L11 GNDIO (power), M3 GNDIO (power), P6 GNDIO (power), P9 GNDINT (power), P10 GNDIO (power), R2 GNDIO (power), R3 GNDIO (power), T1 GNDIO (power), T15 GNDIO (power)
part U pins: A1 NC, A2 NC, A6 NC, A12 NC, A13 NC, A14 NC, A15 NC, A16 NC, B1 NC, B2 NC, B15 NC, B16 NC, C1 NC, C15 NC, C16 NC, D1 NC, D3 NC, D15 NC, D16 NC, G1 NC, G16 NC, H15 NC, H16 NC, J1 NC, K1 NC, L1 NC, L2 NC, M1 NC, M16 NC, N1 NC, N2 NC, N14 NC, N15 NC, N16 NC, P1 NC, P2 NC, P15 NC, P16 NC, R1 NC, R14 NC, R15 NC, R16 NC, T7 NC, T8 NC, T10 NC, T11 NC, T14 NC, T16 NC
part A text: BANK A
part B text: BANK B
part C text: BANK C
part D text: BANK D
part E text: BANK E
part F text: BANK F
part G text: BANK G
part H text: BANK H
part I text: BANK I
part J text: BANK J
part K text: BANK K
part L text: BANK L
part M text: BANK M
part N text: BANK N
part O text: BANK P
part P text: BANK Q

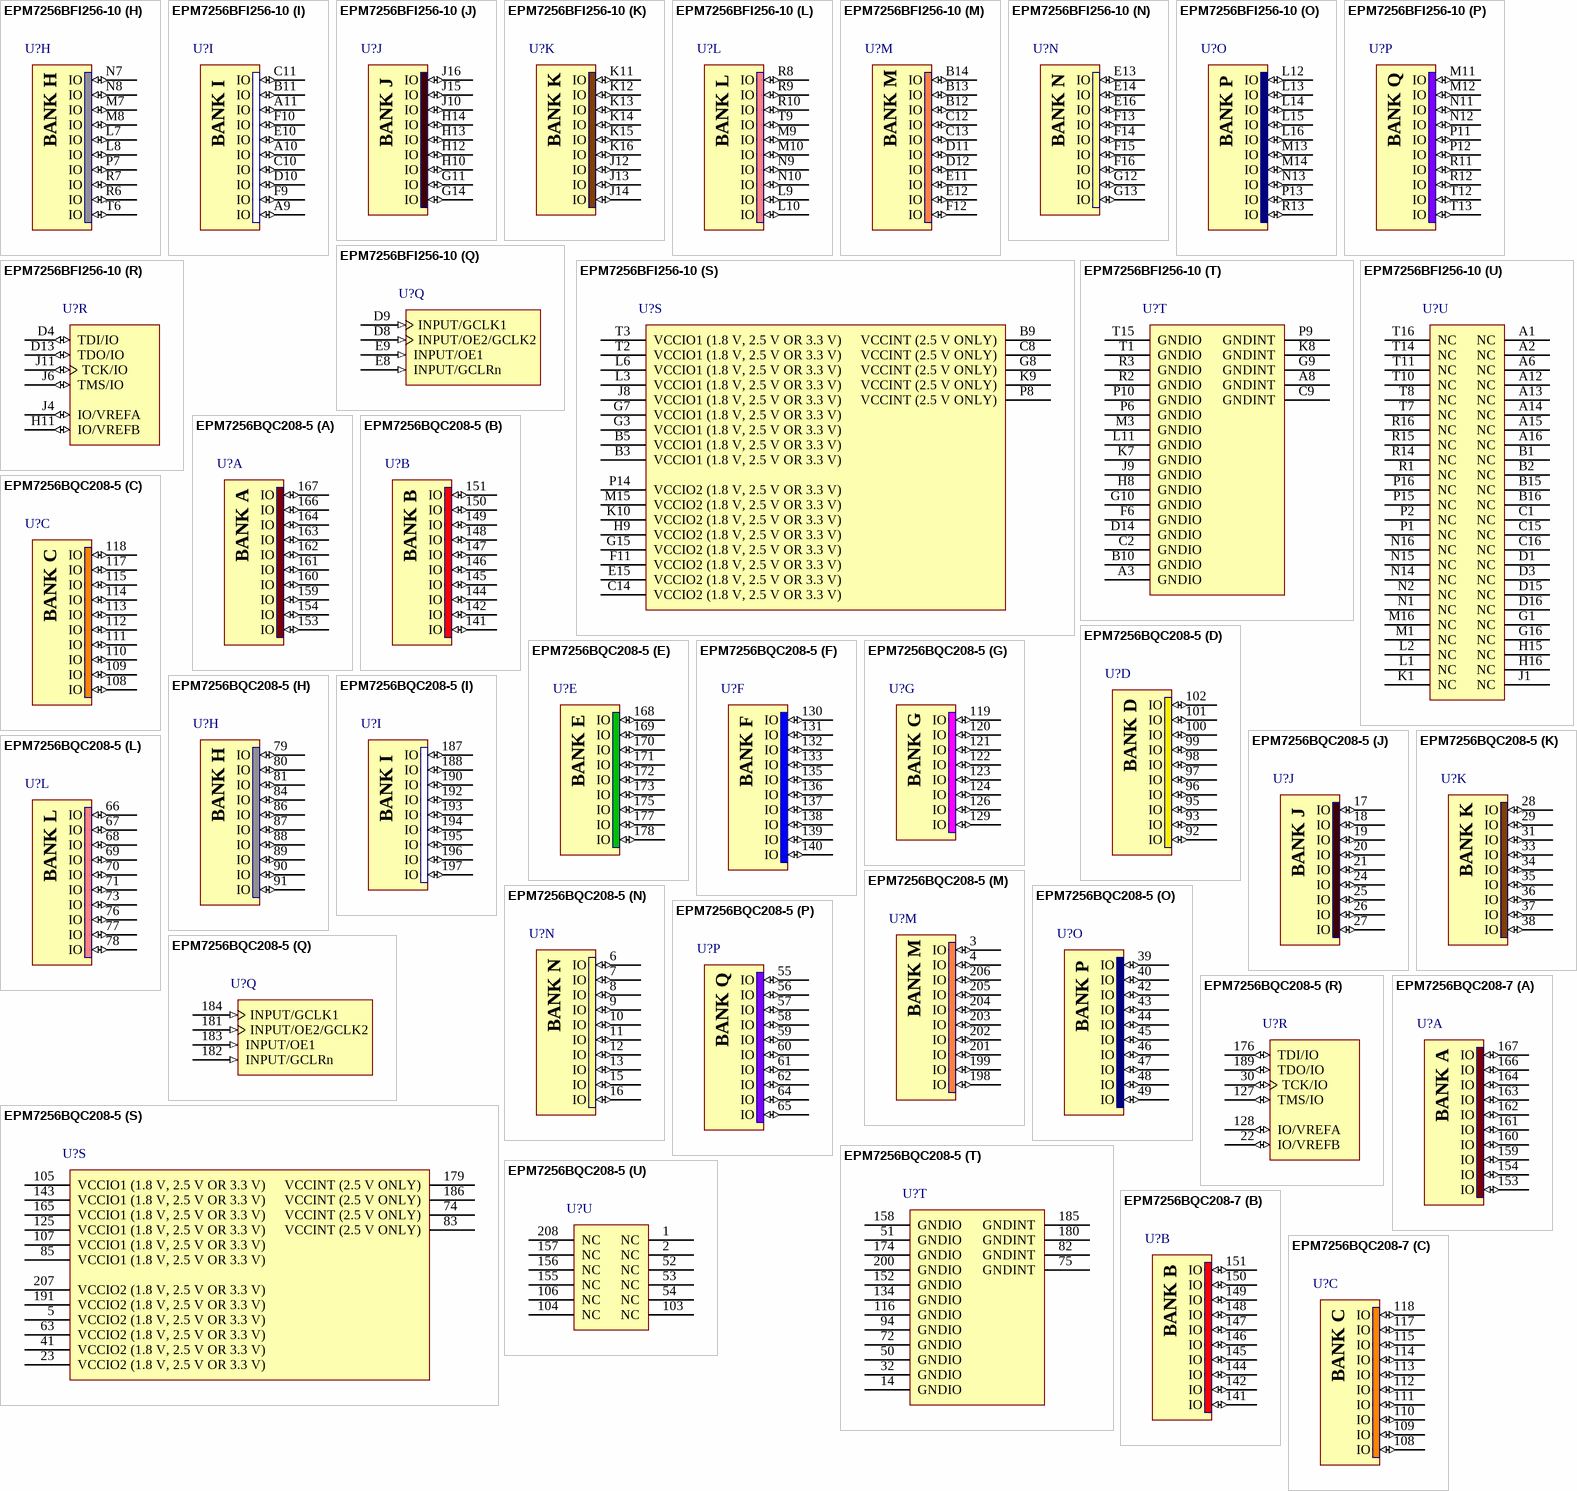
[diagram p25: symbols EPM7256BFI256-10 to EPM7256BQC208-7]